# Altium integrated library Philips Microcontroller 8-Bit.IntLib: 472 symbols (part 9 of 17)
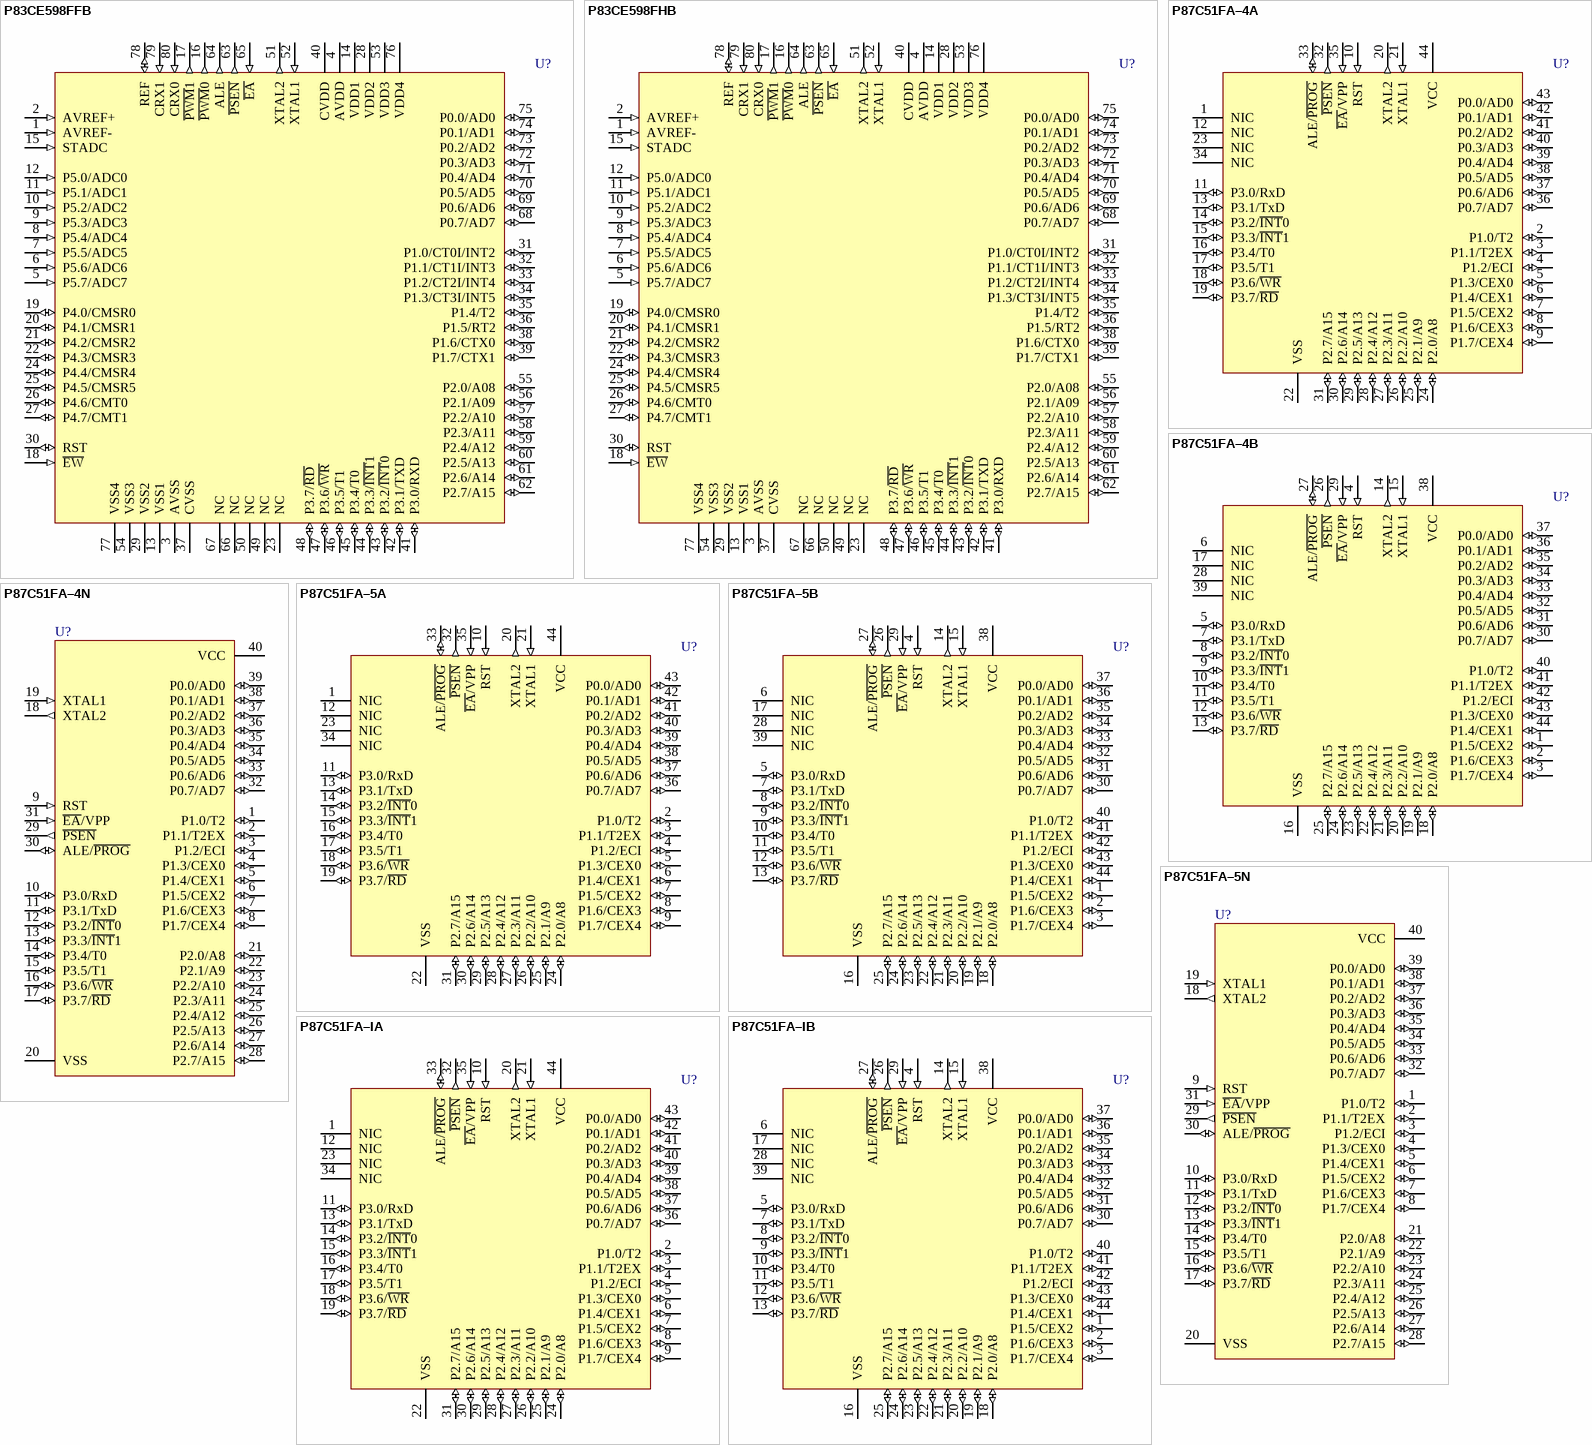
[diagram p54: symbols P83CE598FFB to P87C51FA–IB]

## P87C51FA–IB
designator U?
80C51 8-Bit Microcontroller Family: 256 B RAM, 8 kB OTP, 5V, Low Power, High Speed; Published: 21-May-2003; LatestRevisionDate: 13-Apr-2006; LatestRevisionNote: IPC-7351 Footprint Added.; DatasheetVersion: 7-Aug-2000; PackageVersion: Aug-2000; PackageReference: SOT307-2; Publisher: Altium Limited; PackageDescription: 44-Pin Quad Flat Pack 0.8 mm Pitch; ComponentLink1Description: Manufacturer Link; ComponentLink1URL: http://www-us2.semiconductors.philips.com/; ComponentLink2Description: Datasheet; ComponentLink2URL: http://www.semiconductors.philips.com/acrobat/datasheets/89C51_89C52_89C54_89C58_10.pdf; ComponentLink3Description: Discontinuation Notice; ComponentLink3URL: http://www.semiconductors.philips.com/pip/old/89c51_89c52_89c54_89c58_10.html
footprint SOT307-2_N (QFP, 44-Leads, Body 10x10mm, Pitch 0.8mm, IPC Medium Density)
footprint SOT307-2_L (QFP, 44-Leads, Body 10x10mm, Pitch 0.8mm, IPC High Density)
footprint SOT307-2_M (QFP, 44-Leads, Body 10x10mm, Pitch 0.8mm, IPC Low Density)
pins: 1 P1.5/CEX2 (io), 2 P1.6/CEX3 (io), 3 P1.7/CEX4 (io), 4 RST (in), 5 P3.0/RxD (io), 6 NIC, 7 P3.1/TxD (io), 8 P3.2/~{INT}0 (io), 9 P3.3/~{INT}1 (io), 10 P3.4/T0 (io), 11 P3.5/T1 (io), 12 P3.6/~{WR} (io), 13 P3.7/~{RD} (io), 14 XTAL2 (out), 15 XTAL1 (in), 16 VSS (power), 17 NIC, 18 P2.0/A8 (io), 19 P2.1/A9 (io), 20 P2.2/A10 (io), 21 P2.3/A11 (io), 22 P2.4/A12 (io), 23 P2.5/A13 (io), 24 P2.6/A14 (io), 25 P2.7/A15 (io), 26 ~{PSEN} (out), 27 ALE/~{PROG} (io), 28 NIC, 29 ~{EA}/VPP (in), 30 P0.7/AD7 (io), 31 P0.6/AD6 (io), 32 P0.5/AD5 (io), 33 P0.4/AD4 (io), 34 P0.3/AD3 (io), 35 P0.2/AD2 (io), 36 P0.1/AD1 (io), 37 P0.0/AD0 (io), 38 VCC (power), 39 NIC, 40 P1.0/T2 (io), 41 P1.1/T2EX (io), 42 P1.2/ECI (io), 43 P1.3/CEX0 (io), 44 P1.4/CEX1 (io)

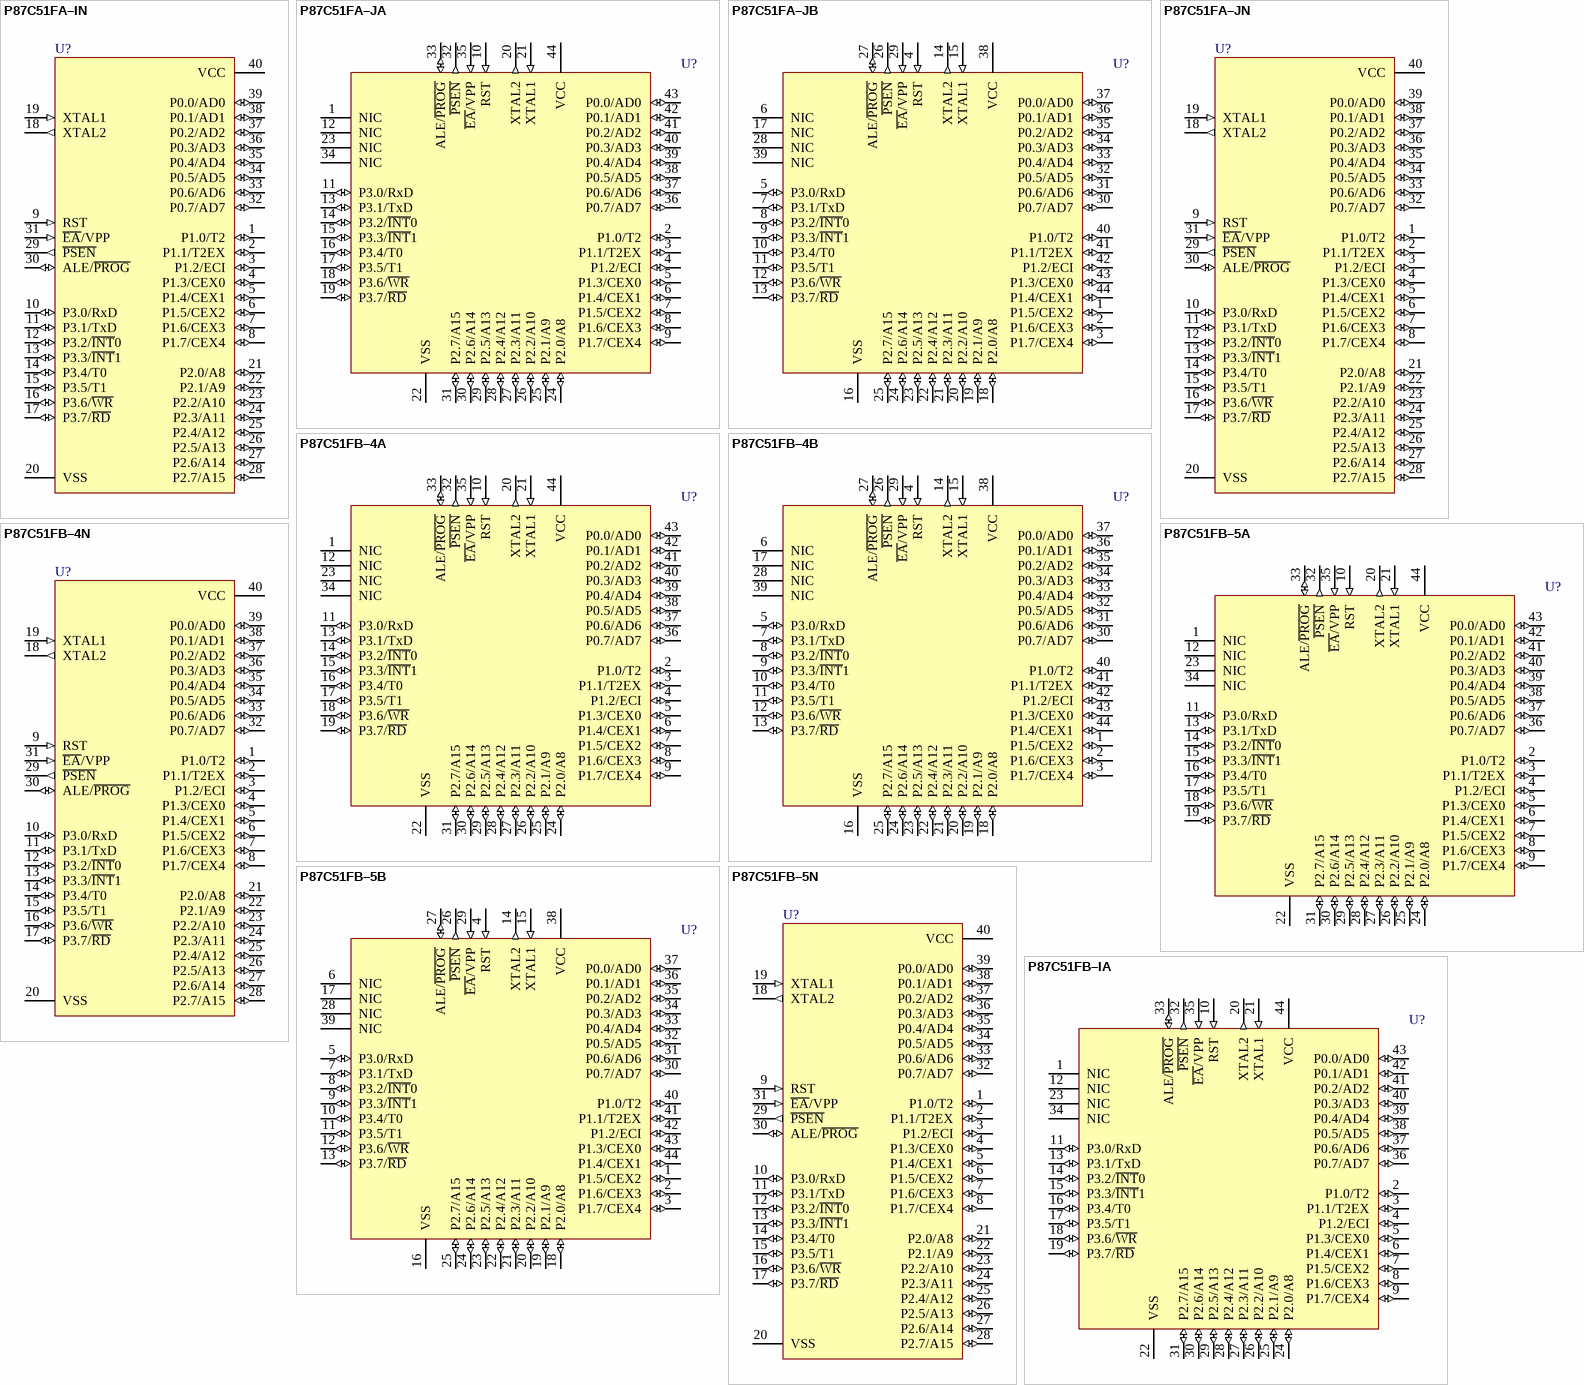
[diagram p24: symbols P87C51FA–IN to P87C51FB–IA]

## P87C51FA–IN
designator U?
80C51 8-Bit Microcontroller Family: 256 B RAM, 8 kB OTP, 5V, Low Power, High Speed; Published: 21-May-2003; DatasheetVersion: 7-Aug-2000; PackageVersion: Aug-2000; PackageReference: SOT129-1; Publisher: Altium Limited; PackageDescription: DIP, Plastic; 40 Leads; Row Spacing 15.24 mm; Pitch 2.54 mm; Code_JEDEC: MO-015; ComponentLink1Description: Manufacturer Link; ComponentLink1URL: http://www-us2.semiconductors.philips.com/; ComponentLink2Description: Datasheet; ComponentLink2URL: http://www.semiconductors.philips.com/acrobat/datasheets/89C51_89C52_89C54_89C58_10.pdf; ComponentLink3Description: Discontinuation Notice; ComponentLink3URL: http://www.semiconductors.philips.com/pip/old/89c51_89c52_89c54_89c58_10.html
footprint SOT129-1 (DIP, Plastic; 40 Leads; Row Spacing 15.24 mm; Pitch 2.54 mm)
pins: 1 P1.0/T2 (io), 2 P1.1/T2EX (io), 3 P1.2/ECI (io), 4 P1.3/CEX0 (io), 5 P1.4/CEX1 (io), 6 P1.5/CEX2 (io), 7 P1.6/CEX3 (io), 8 P1.7/CEX4 (io), 9 RST (in), 10 P3.0/RxD (io), 11 P3.1/TxD (io), 12 P3.2/~{INT}0 (io), 13 P3.3/~{INT}1 (io), 14 P3.4/T0 (io), 15 P3.5/T1 (io), 16 P3.6/~{WR} (io), 17 P3.7/~{RD} (io), 18 XTAL2 (out), 19 XTAL1 (in), 20 VSS (power), 21 P2.0/A8 (io), 22 P2.1/A9 (io), 23 P2.2/A10 (io), 24 P2.3/A11 (io), 25 P2.4/A12 (io), 26 P2.5/A13 (io), 27 P2.6/A14 (io), 28 P2.7/A15 (io), 29 ~{PSEN} (out), 30 ALE/~{PROG} (io), 31 ~{EA}/VPP (in), 32 P0.7/AD7 (io), 33 P0.6/AD6 (io), 34 P0.5/AD5 (io), 35 P0.4/AD4 (io), 36 P0.3/AD3 (io), 37 P0.2/AD2 (io), 38 P0.1/AD1 (io), 39 P0.0/AD0 (io), 40 VCC (power)

## P87C51FA–JA
designator U?
80C51 8-Bit Microcontroller Family: 256 B RAM, 8 kB OTP, 5V, Low Power, High Speed; Published: 21-May-2003; LatestRevisionDate: 13-Apr-2006; LatestRevisionNote: IPC-7351 Footprint Added.; DatasheetVersion: 7-Aug-2000; PackageVersion: Jan-2000; PackageReference: SOT187-2; Publisher: Altium Limited; PackageDescription: 44-Pin Leaded Chip Carrier 1.27 mm Pitch; Code_JEDEC: MO-047AC; Code_IPC: PLCC-44; ComponentLink1Description: Manufacturer Link; ComponentLink1URL: http://www-us2.semiconductors.philips.com/; ComponentLink2Description: Datasheet; ComponentLink2URL: http://www.semiconductors.philips.com/acrobat/datasheets/89C51_89C52_89C54_89C58_10.pdf; ComponentLink3Description: Discontinuation Notice; ComponentLink3URL: http://www.semiconductors.philips.com/pip/old/89c51_89c52_89c54_89c58_10.html
footprint SOT187-2_N (Leaded Chip Carrier, 44-Leads, Body 16.6x16.6mm, Pitch 1.27mm, IPC Medium Density)
footprint SOT187-2_L (Leaded Chip Carrier, 44-Leads, Body 16.6x16.6mm, Pitch 1.27mm, IPC High Density)
footprint SOT187-2_M (Leaded Chip Carrier, 44-Leads, Body 16.6x16.6mm, Pitch 1.27mm, IPC Low Density)
pins: 1 NIC, 2 P1.0/T2 (io), 3 P1.1/T2EX (io), 4 P1.2/ECI (io), 5 P1.3/CEX0 (io), 6 P1.4/CEX1 (io), 7 P1.5/CEX2 (io), 8 P1.6/CEX3 (io), 9 P1.7/CEX4 (io), 10 RST (in), 11 P3.0/RxD (io), 12 NIC, 13 P3.1/TxD (io), 14 P3.2/~{INT}0 (io), 15 P3.3/~{INT}1 (io), 16 P3.4/T0 (io), 17 P3.5/T1 (io), 18 P3.6/~{WR} (io), 19 P3.7/~{RD} (io), 20 XTAL2 (out), 21 XTAL1 (in), 22 VSS (power), 23 NIC, 24 P2.0/A8 (io), 25 P2.1/A9 (io), 26 P2.2/A10 (io), 27 P2.3/A11 (io), 28 P2.4/A12 (io), 29 P2.5/A13 (io), 30 P2.6/A14 (io), 31 P2.7/A15 (io), 32 ~{PSEN} (out), 33 ALE/~{PROG} (io), 34 NIC, 35 ~{EA}/VPP (in), 36 P0.7/AD7 (io), 37 P0.6/AD6 (io), 38 P0.5/AD5 (io), 39 P0.4/AD4 (io), 40 P0.3/AD3 (io), 41 P0.2/AD2 (io), 42 P0.1/AD1 (io), 43 P0.0/AD0 (io), 44 VCC (power)

## P87C51FA–JB
designator U?
80C51 8-Bit Microcontroller Family: 256 B RAM, 8 kB OTP, 5V, Low Power, High Speed; Published: 21-May-2003; LatestRevisionDate: 13-Apr-2006; LatestRevisionNote: IPC-7351 Footprint Added.; DatasheetVersion: 7-Aug-2000; PackageVersion: Aug-2000; PackageReference: SOT307-2; Publisher: Altium Limited; PackageDescription: 44-Pin Quad Flat Pack 0.8 mm Pitch; ComponentLink1Description: Manufacturer Link; ComponentLink1URL: http://www-us2.semiconductors.philips.com/; ComponentLink2Description: Datasheet; ComponentLink2URL: http://www.semiconductors.philips.com/acrobat/datasheets/89C51_89C52_89C54_89C58_10.pdf; ComponentLink3Description: Discontinuation Notice; ComponentLink3URL: http://www.semiconductors.philips.com/pip/old/89c51_89c52_89c54_89c58_10.html
footprint SOT307-2_N (QFP, 44-Leads, Body 10x10mm, Pitch 0.8mm, IPC Medium Density)
footprint SOT307-2_L (QFP, 44-Leads, Body 10x10mm, Pitch 0.8mm, IPC High Density)
footprint SOT307-2_M (QFP, 44-Leads, Body 10x10mm, Pitch 0.8mm, IPC Low Density)
pins: 1 P1.5/CEX2 (io), 2 P1.6/CEX3 (io), 3 P1.7/CEX4 (io), 4 RST (in), 5 P3.0/RxD (io), 6 NIC, 7 P3.1/TxD (io), 8 P3.2/~{INT}0 (io), 9 P3.3/~{INT}1 (io), 10 P3.4/T0 (io), 11 P3.5/T1 (io), 12 P3.6/~{WR} (io), 13 P3.7/~{RD} (io), 14 XTAL2 (out), 15 XTAL1 (in), 16 VSS (power), 17 NIC, 18 P2.0/A8 (io), 19 P2.1/A9 (io), 20 P2.2/A10 (io), 21 P2.3/A11 (io), 22 P2.4/A12 (io), 23 P2.5/A13 (io), 24 P2.6/A14 (io), 25 P2.7/A15 (io), 26 ~{PSEN} (out), 27 ALE/~{PROG} (io), 28 NIC, 29 ~{EA}/VPP (in), 30 P0.7/AD7 (io), 31 P0.6/AD6 (io), 32 P0.5/AD5 (io), 33 P0.4/AD4 (io), 34 P0.3/AD3 (io), 35 P0.2/AD2 (io), 36 P0.1/AD1 (io), 37 P0.0/AD0 (io), 38 VCC (power), 39 NIC, 40 P1.0/T2 (io), 41 P1.1/T2EX (io), 42 P1.2/ECI (io), 43 P1.3/CEX0 (io), 44 P1.4/CEX1 (io)

## P87C51FA–JN
designator U?
80C51 8-Bit Microcontroller Family: 256 B RAM, 8 kB OTP, 5V, Low Power, High Speed; Published: 21-May-2003; DatasheetVersion: 7-Aug-2000; PackageVersion: Aug-2000; PackageReference: SOT129-1; Publisher: Altium Limited; PackageDescription: DIP, Plastic; 40 Leads; Row Spacing 15.24 mm; Pitch 2.54 mm; Code_JEDEC: MO-015; ComponentLink1Description: Manufacturer Link; ComponentLink1URL: http://www-us2.semiconductors.philips.com/; ComponentLink2Description: Datasheet; ComponentLink2URL: http://www.semiconductors.philips.com/acrobat/datasheets/89C51_89C52_89C54_89C58_10.pdf; ComponentLink3Description: Discontinuation Notice; ComponentLink3URL: http://www.semiconductors.philips.com/pip/old/89c51_89c52_89c54_89c58_10.html
footprint SOT129-1 (DIP, Plastic; 40 Leads; Row Spacing 15.24 mm; Pitch 2.54 mm)
pins: 1 P1.0/T2 (io), 2 P1.1/T2EX (io), 3 P1.2/ECI (io), 4 P1.3/CEX0 (io), 5 P1.4/CEX1 (io), 6 P1.5/CEX2 (io), 7 P1.6/CEX3 (io), 8 P1.7/CEX4 (io), 9 RST (in), 10 P3.0/RxD (io), 11 P3.1/TxD (io), 12 P3.2/~{INT}0 (io), 13 P3.3/~{INT}1 (io), 14 P3.4/T0 (io), 15 P3.5/T1 (io), 16 P3.6/~{WR} (io), 17 P3.7/~{RD} (io), 18 XTAL2 (out), 19 XTAL1 (in), 20 VSS (power), 21 P2.0/A8 (io), 22 P2.1/A9 (io), 23 P2.2/A10 (io), 24 P2.3/A11 (io), 25 P2.4/A12 (io), 26 P2.5/A13 (io), 27 P2.6/A14 (io), 28 P2.7/A15 (io), 29 ~{PSEN} (out), 30 ALE/~{PROG} (io), 31 ~{EA}/VPP (in), 32 P0.7/AD7 (io), 33 P0.6/AD6 (io), 34 P0.5/AD5 (io), 35 P0.4/AD4 (io), 36 P0.3/AD3 (io), 37 P0.2/AD2 (io), 38 P0.1/AD1 (io), 39 P0.0/AD0 (io), 40 VCC (power)

## P87C51FB–4A
designator U?
80C51 8-Bit Microcontroller Family: 256 B RAM, 16 kB OTP, 2.7V-5.5V, Low Power, High Speed; Published: 21-May-2003; LatestRevisionDate: 13-Apr-2006; LatestRevisionNote: IPC-7351 Footprint Added.; DatasheetVersion: 7-Aug-2000; PackageVersion: Jan-2000; PackageReference: SOT187-2; Publisher: Altium Limited; PackageDescription: 44-Pin Leaded Chip Carrier 1.27 mm Pitch; Code_JEDEC: MO-047AC; Code_IPC: PLCC-44; ComponentLink1Description: Manufacturer Link; ComponentLink1URL: http://www-us2.semiconductors.philips.com/; ComponentLink2Description: Datasheet; ComponentLink2URL: http://www.semiconductors.philips.com/acrobat/datasheets/89C51_89C52_89C54_89C58_10.pdf; ComponentLink3Description: Discontinuation Notice; ComponentLink3URL: http://www.semiconductors.philips.com/pip/old/89c51_89c52_89c54_89c58_10.html
footprint SOT187-2_N (Leaded Chip Carrier, 44-Leads, Body 16.6x16.6mm, Pitch 1.27mm, IPC Medium Density)
footprint SOT187-2_L (Leaded Chip Carrier, 44-Leads, Body 16.6x16.6mm, Pitch 1.27mm, IPC High Density)
footprint SOT187-2_M (Leaded Chip Carrier, 44-Leads, Body 16.6x16.6mm, Pitch 1.27mm, IPC Low Density)
pins: 1 NIC, 2 P1.0/T2 (io), 3 P1.1/T2EX (io), 4 P1.2/ECI (io), 5 P1.3/CEX0 (io), 6 P1.4/CEX1 (io), 7 P1.5/CEX2 (io), 8 P1.6/CEX3 (io), 9 P1.7/CEX4 (io), 10 RST (in), 11 P3.0/RxD (io), 12 NIC, 13 P3.1/TxD (io), 14 P3.2/~{INT}0 (io), 15 P3.3/~{INT}1 (io), 16 P3.4/T0 (io), 17 P3.5/T1 (io), 18 P3.6/~{WR} (io), 19 P3.7/~{RD} (io), 20 XTAL2 (out), 21 XTAL1 (in), 22 VSS (power), 23 NIC, 24 P2.0/A8 (io), 25 P2.1/A9 (io), 26 P2.2/A10 (io), 27 P2.3/A11 (io), 28 P2.4/A12 (io), 29 P2.5/A13 (io), 30 P2.6/A14 (io), 31 P2.7/A15 (io), 32 ~{PSEN} (out), 33 ALE/~{PROG} (io), 34 NIC, 35 ~{EA}/VPP (in), 36 P0.7/AD7 (io), 37 P0.6/AD6 (io), 38 P0.5/AD5 (io), 39 P0.4/AD4 (io), 40 P0.3/AD3 (io), 41 P0.2/AD2 (io), 42 P0.1/AD1 (io), 43 P0.0/AD0 (io), 44 VCC (power)

## P87C51FB–4B
designator U?
80C51 8-Bit Microcontroller Family: 256 B RAM, 16 kB OTP, 2.7V-5.5V, Low Power, High Speed; Published: 21-May-2003; LatestRevisionDate: 13-Apr-2006; LatestRevisionNote: IPC-7351 Footprint Added.; DatasheetVersion: 7-Aug-2000; PackageVersion: Aug-2000; PackageReference: SOT307-2; Publisher: Altium Limited; PackageDescription: 44-Pin Quad Flat Pack 0.8 mm Pitch; ComponentLink1Description: Manufacturer Link; ComponentLink1URL: http://www-us2.semiconductors.philips.com/; ComponentLink2Description: Datasheet; ComponentLink2URL: http://www.semiconductors.philips.com/acrobat/datasheets/89C51_89C52_89C54_89C58_10.pdf; ComponentLink3Description: Discontinuation Notice; ComponentLink3URL: http://www.semiconductors.philips.com/pip/old/89c51_89c52_89c54_89c58_10.html
footprint SOT307-2_N (QFP, 44-Leads, Body 10x10mm, Pitch 0.8mm, IPC Medium Density)
footprint SOT307-2_L (QFP, 44-Leads, Body 10x10mm, Pitch 0.8mm, IPC High Density)
footprint SOT307-2_M (QFP, 44-Leads, Body 10x10mm, Pitch 0.8mm, IPC Low Density)
pins: 1 P1.5/CEX2 (io), 2 P1.6/CEX3 (io), 3 P1.7/CEX4 (io), 4 RST (in), 5 P3.0/RxD (io), 6 NIC, 7 P3.1/TxD (io), 8 P3.2/~{INT}0 (io), 9 P3.3/~{INT}1 (io), 10 P3.4/T0 (io), 11 P3.5/T1 (io), 12 P3.6/~{WR} (io), 13 P3.7/~{RD} (io), 14 XTAL2 (out), 15 XTAL1 (in), 16 VSS (power), 17 NIC, 18 P2.0/A8 (io), 19 P2.1/A9 (io), 20 P2.2/A10 (io), 21 P2.3/A11 (io), 22 P2.4/A12 (io), 23 P2.5/A13 (io), 24 P2.6/A14 (io), 25 P2.7/A15 (io), 26 ~{PSEN} (out), 27 ALE/~{PROG} (io), 28 NIC, 29 ~{EA}/VPP (in), 30 P0.7/AD7 (io), 31 P0.6/AD6 (io), 32 P0.5/AD5 (io), 33 P0.4/AD4 (io), 34 P0.3/AD3 (io), 35 P0.2/AD2 (io), 36 P0.1/AD1 (io), 37 P0.0/AD0 (io), 38 VCC (power), 39 NIC, 40 P1.0/T2 (io), 41 P1.1/T2EX (io), 42 P1.2/ECI (io), 43 P1.3/CEX0 (io), 44 P1.4/CEX1 (io)

## P87C51FB–4N
designator U?
80C51 8-Bit Microcontroller Family: 256 B RAM, 16 kB OTP, 2.7V-5.5V, Low Power, High Speed; Published: 21-May-2003; DatasheetVersion: 7-Aug-2000; PackageVersion: Aug-2000; PackageReference: SOT129-1; Publisher: Altium Limited; PackageDescription: DIP, Plastic; 40 Leads; Row Spacing 15.24 mm; Pitch 2.54 mm; Code_JEDEC: MO-015; ComponentLink1Description: Manufacturer Link; ComponentLink1URL: http://www-us2.semiconductors.philips.com/; ComponentLink2Description: Datasheet; ComponentLink2URL: http://www.semiconductors.philips.com/acrobat/datasheets/89C51_89C52_89C54_89C58_10.pdf; ComponentLink3Description: Discontinuation Notice; ComponentLink3URL: http://www.semiconductors.philips.com/pip/old/89c51_89c52_89c54_89c58_10.html
footprint SOT129-1 (DIP, Plastic; 40 Leads; Row Spacing 15.24 mm; Pitch 2.54 mm)
pins: 1 P1.0/T2 (io), 2 P1.1/T2EX (io), 3 P1.2/ECI (io), 4 P1.3/CEX0 (io), 5 P1.4/CEX1 (io), 6 P1.5/CEX2 (io), 7 P1.6/CEX3 (io), 8 P1.7/CEX4 (io), 9 RST (in), 10 P3.0/RxD (io), 11 P3.1/TxD (io), 12 P3.2/~{INT}0 (io), 13 P3.3/~{INT}1 (io), 14 P3.4/T0 (io), 15 P3.5/T1 (io), 16 P3.6/~{WR} (io), 17 P3.7/~{RD} (io), 18 XTAL2 (out), 19 XTAL1 (in), 20 VSS (power), 21 P2.0/A8 (io), 22 P2.1/A9 (io), 23 P2.2/A10 (io), 24 P2.3/A11 (io), 25 P2.4/A12 (io), 26 P2.5/A13 (io), 27 P2.6/A14 (io), 28 P2.7/A15 (io), 29 ~{PSEN} (out), 30 ALE/~{PROG} (io), 31 ~{EA}/VPP (in), 32 P0.7/AD7 (io), 33 P0.6/AD6 (io), 34 P0.5/AD5 (io), 35 P0.4/AD4 (io), 36 P0.3/AD3 (io), 37 P0.2/AD2 (io), 38 P0.1/AD1 (io), 39 P0.0/AD0 (io), 40 VCC (power)

## P87C51FB–5A
designator U?
80C51 8-Bit Microcontroller Family: 256 B RAM, 16 kB OTP, 2.7V-5.5V, Low Power, High Speed; Published: 21-May-2003; LatestRevisionDate: 13-Apr-2006; LatestRevisionNote: IPC-7351 Footprint Added.; DatasheetVersion: 7-Aug-2000; PackageVersion: Jan-2000; PackageReference: SOT187-2; Publisher: Altium Limited; PackageDescription: 44-Pin Leaded Chip Carrier 1.27 mm Pitch; Code_JEDEC: MO-047AC; Code_IPC: PLCC-44; ComponentLink1Description: Manufacturer Link; ComponentLink1URL: http://www-us2.semiconductors.philips.com/; ComponentLink2Description: Datasheet; ComponentLink2URL: http://www.semiconductors.philips.com/acrobat/datasheets/89C51_89C52_89C54_89C58_10.pdf; ComponentLink3Description: Discontinuation Notice; ComponentLink3URL: http://www.semiconductors.philips.com/pip/old/89c51_89c52_89c54_89c58_10.html
footprint SOT187-2_N (Leaded Chip Carrier, 44-Leads, Body 16.6x16.6mm, Pitch 1.27mm, IPC Medium Density)
footprint SOT187-2_L (Leaded Chip Carrier, 44-Leads, Body 16.6x16.6mm, Pitch 1.27mm, IPC High Density)
footprint SOT187-2_M (Leaded Chip Carrier, 44-Leads, Body 16.6x16.6mm, Pitch 1.27mm, IPC Low Density)
pins: 1 NIC, 2 P1.0/T2 (io), 3 P1.1/T2EX (io), 4 P1.2/ECI (io), 5 P1.3/CEX0 (io), 6 P1.4/CEX1 (io), 7 P1.5/CEX2 (io), 8 P1.6/CEX3 (io), 9 P1.7/CEX4 (io), 10 RST (in), 11 P3.0/RxD (io), 12 NIC, 13 P3.1/TxD (io), 14 P3.2/~{INT}0 (io), 15 P3.3/~{INT}1 (io), 16 P3.4/T0 (io), 17 P3.5/T1 (io), 18 P3.6/~{WR} (io), 19 P3.7/~{RD} (io), 20 XTAL2 (out), 21 XTAL1 (in), 22 VSS (power), 23 NIC, 24 P2.0/A8 (io), 25 P2.1/A9 (io), 26 P2.2/A10 (io), 27 P2.3/A11 (io), 28 P2.4/A12 (io), 29 P2.5/A13 (io), 30 P2.6/A14 (io), 31 P2.7/A15 (io), 32 ~{PSEN} (out), 33 ALE/~{PROG} (io), 34 NIC, 35 ~{EA}/VPP (in), 36 P0.7/AD7 (io), 37 P0.6/AD6 (io), 38 P0.5/AD5 (io), 39 P0.4/AD4 (io), 40 P0.3/AD3 (io), 41 P0.2/AD2 (io), 42 P0.1/AD1 (io), 43 P0.0/AD0 (io), 44 VCC (power)

## P87C51FB–5B
designator U?
80C51 8-Bit Microcontroller Family: 256 B RAM, 16 kB OTP, 2.7V-5.5V, Low Power, High Speed; Published: 21-May-2003; LatestRevisionDate: 13-Apr-2006; LatestRevisionNote: IPC-7351 Footprint Added.; DatasheetVersion: 7-Aug-2000; PackageVersion: Aug-2000; PackageReference: SOT307-2; Publisher: Altium Limited; PackageDescription: 44-Pin Quad Flat Pack 0.8 mm Pitch; ComponentLink1Description: Manufacturer Link; ComponentLink1URL: http://www-us2.semiconductors.philips.com/; ComponentLink2Description: Datasheet; ComponentLink2URL: http://www.semiconductors.philips.com/acrobat/datasheets/89C51_89C52_89C54_89C58_10.pdf; ComponentLink3Description: Discontinuation Notice; ComponentLink3URL: http://www.semiconductors.philips.com/pip/old/89c51_89c52_89c54_89c58_10.html
footprint SOT307-2_N (QFP, 44-Leads, Body 10x10mm, Pitch 0.8mm, IPC Medium Density)
footprint SOT307-2_L (QFP, 44-Leads, Body 10x10mm, Pitch 0.8mm, IPC High Density)
footprint SOT307-2_M (QFP, 44-Leads, Body 10x10mm, Pitch 0.8mm, IPC Low Density)
pins: 1 P1.5/CEX2 (io), 2 P1.6/CEX3 (io), 3 P1.7/CEX4 (io), 4 RST (in), 5 P3.0/RxD (io), 6 NIC, 7 P3.1/TxD (io), 8 P3.2/~{INT}0 (io), 9 P3.3/~{INT}1 (io), 10 P3.4/T0 (io), 11 P3.5/T1 (io), 12 P3.6/~{WR} (io), 13 P3.7/~{RD} (io), 14 XTAL2 (out), 15 XTAL1 (in), 16 VSS (power), 17 NIC, 18 P2.0/A8 (io), 19 P2.1/A9 (io), 20 P2.2/A10 (io), 21 P2.3/A11 (io), 22 P2.4/A12 (io), 23 P2.5/A13 (io), 24 P2.6/A14 (io), 25 P2.7/A15 (io), 26 ~{PSEN} (out), 27 ALE/~{PROG} (io), 28 NIC, 29 ~{EA}/VPP (in), 30 P0.7/AD7 (io), 31 P0.6/AD6 (io), 32 P0.5/AD5 (io), 33 P0.4/AD4 (io), 34 P0.3/AD3 (io), 35 P0.2/AD2 (io), 36 P0.1/AD1 (io), 37 P0.0/AD0 (io), 38 VCC (power), 39 NIC, 40 P1.0/T2 (io), 41 P1.1/T2EX (io), 42 P1.2/ECI (io), 43 P1.3/CEX0 (io), 44 P1.4/CEX1 (io)

## P87C51FB–5N
designator U?
80C51 8-Bit Microcontroller Family: 256 B RAM, 16 kB OTP, 2.7V-5.5V, Low Power, High Speed; Published: 21-May-2003; DatasheetVersion: 7-Aug-2000; PackageVersion: Aug-2000; PackageReference: SOT129-1; Publisher: Altium Limited; PackageDescription: DIP, Plastic; 40 Leads; Row Spacing 15.24 mm; Pitch 2.54 mm; Code_JEDEC: MO-015; ComponentLink1Description: Manufacturer Link; ComponentLink1URL: http://www-us2.semiconductors.philips.com/; ComponentLink2Description: Datasheet; ComponentLink2URL: http://www.semiconductors.philips.com/acrobat/datasheets/89C51_89C52_89C54_89C58_10.pdf; ComponentLink3Description: Discontinuation Notice; ComponentLink3URL: http://www.semiconductors.philips.com/pip/old/89c51_89c52_89c54_89c58_10.html
footprint SOT129-1 (DIP, Plastic; 40 Leads; Row Spacing 15.24 mm; Pitch 2.54 mm)
pins: 1 P1.0/T2 (io), 2 P1.1/T2EX (io), 3 P1.2/ECI (io), 4 P1.3/CEX0 (io), 5 P1.4/CEX1 (io), 6 P1.5/CEX2 (io), 7 P1.6/CEX3 (io), 8 P1.7/CEX4 (io), 9 RST (in), 10 P3.0/RxD (io), 11 P3.1/TxD (io), 12 P3.2/~{INT}0 (io), 13 P3.3/~{INT}1 (io), 14 P3.4/T0 (io), 15 P3.5/T1 (io), 16 P3.6/~{WR} (io), 17 P3.7/~{RD} (io), 18 XTAL2 (out), 19 XTAL1 (in), 20 VSS (power), 21 P2.0/A8 (io), 22 P2.1/A9 (io), 23 P2.2/A10 (io), 24 P2.3/A11 (io), 25 P2.4/A12 (io), 26 P2.5/A13 (io), 27 P2.6/A14 (io), 28 P2.7/A15 (io), 29 ~{PSEN} (out), 30 ALE/~{PROG} (io), 31 ~{EA}/VPP (in), 32 P0.7/AD7 (io), 33 P0.6/AD6 (io), 34 P0.5/AD5 (io), 35 P0.4/AD4 (io), 36 P0.3/AD3 (io), 37 P0.2/AD2 (io), 38 P0.1/AD1 (io), 39 P0.0/AD0 (io), 40 VCC (power)

## P87C51FB–IA
designator U?
80C51 8-Bit Microcontroller Family: 256 B RAM, 16 kB OTP, 5V, Low Power, High Speed; Published: 21-May-2003; LatestRevisionDate: 13-Apr-2006; LatestRevisionNote: IPC-7351 Footprint Added.; DatasheetVersion: 7-Aug-2000; PackageVersion: Jan-2000; PackageReference: SOT187-2; Publisher: Altium Limited; PackageDescription: 44-Pin Leaded Chip Carrier 1.27 mm Pitch; Code_JEDEC: MO-047AC; Code_IPC: PLCC-44; ComponentLink1Description: Manufacturer Link; ComponentLink1URL: http://www-us2.semiconductors.philips.com/; ComponentLink2Description: Datasheet; ComponentLink2URL: http://www.semiconductors.philips.com/acrobat/datasheets/89C51_89C52_89C54_89C58_10.pdf; ComponentLink3Description: Discontinuation Notice; ComponentLink3URL: http://www.semiconductors.philips.com/pip/old/89c51_89c52_89c54_89c58_10.html
footprint SOT187-2_N (Leaded Chip Carrier, 44-Leads, Body 16.6x16.6mm, Pitch 1.27mm, IPC Medium Density)
footprint SOT187-2_L (Leaded Chip Carrier, 44-Leads, Body 16.6x16.6mm, Pitch 1.27mm, IPC High Density)
footprint SOT187-2_M (Leaded Chip Carrier, 44-Leads, Body 16.6x16.6mm, Pitch 1.27mm, IPC Low Density)
pins: 1 NIC, 2 P1.0/T2 (io), 3 P1.1/T2EX (io), 4 P1.2/ECI (io), 5 P1.3/CEX0 (io), 6 P1.4/CEX1 (io), 7 P1.5/CEX2 (io), 8 P1.6/CEX3 (io), 9 P1.7/CEX4 (io), 10 RST (in), 11 P3.0/RxD (io), 12 NIC, 13 P3.1/TxD (io), 14 P3.2/~{INT}0 (io), 15 P3.3/~{INT}1 (io), 16 P3.4/T0 (io), 17 P3.5/T1 (io), 18 P3.6/~{WR} (io), 19 P3.7/~{RD} (io), 20 XTAL2 (out), 21 XTAL1 (in), 22 VSS (power), 23 NIC, 24 P2.0/A8 (io), 25 P2.1/A9 (io), 26 P2.2/A10 (io), 27 P2.3/A11 (io), 28 P2.4/A12 (io), 29 P2.5/A13 (io), 30 P2.6/A14 (io), 31 P2.7/A15 (io), 32 ~{PSEN} (out), 33 ALE/~{PROG} (io), 34 NIC, 35 ~{EA}/VPP (in), 36 P0.7/AD7 (io), 37 P0.6/AD6 (io), 38 P0.5/AD5 (io), 39 P0.4/AD4 (io), 40 P0.3/AD3 (io), 41 P0.2/AD2 (io), 42 P0.1/AD1 (io), 43 P0.0/AD0 (io), 44 VCC (power)

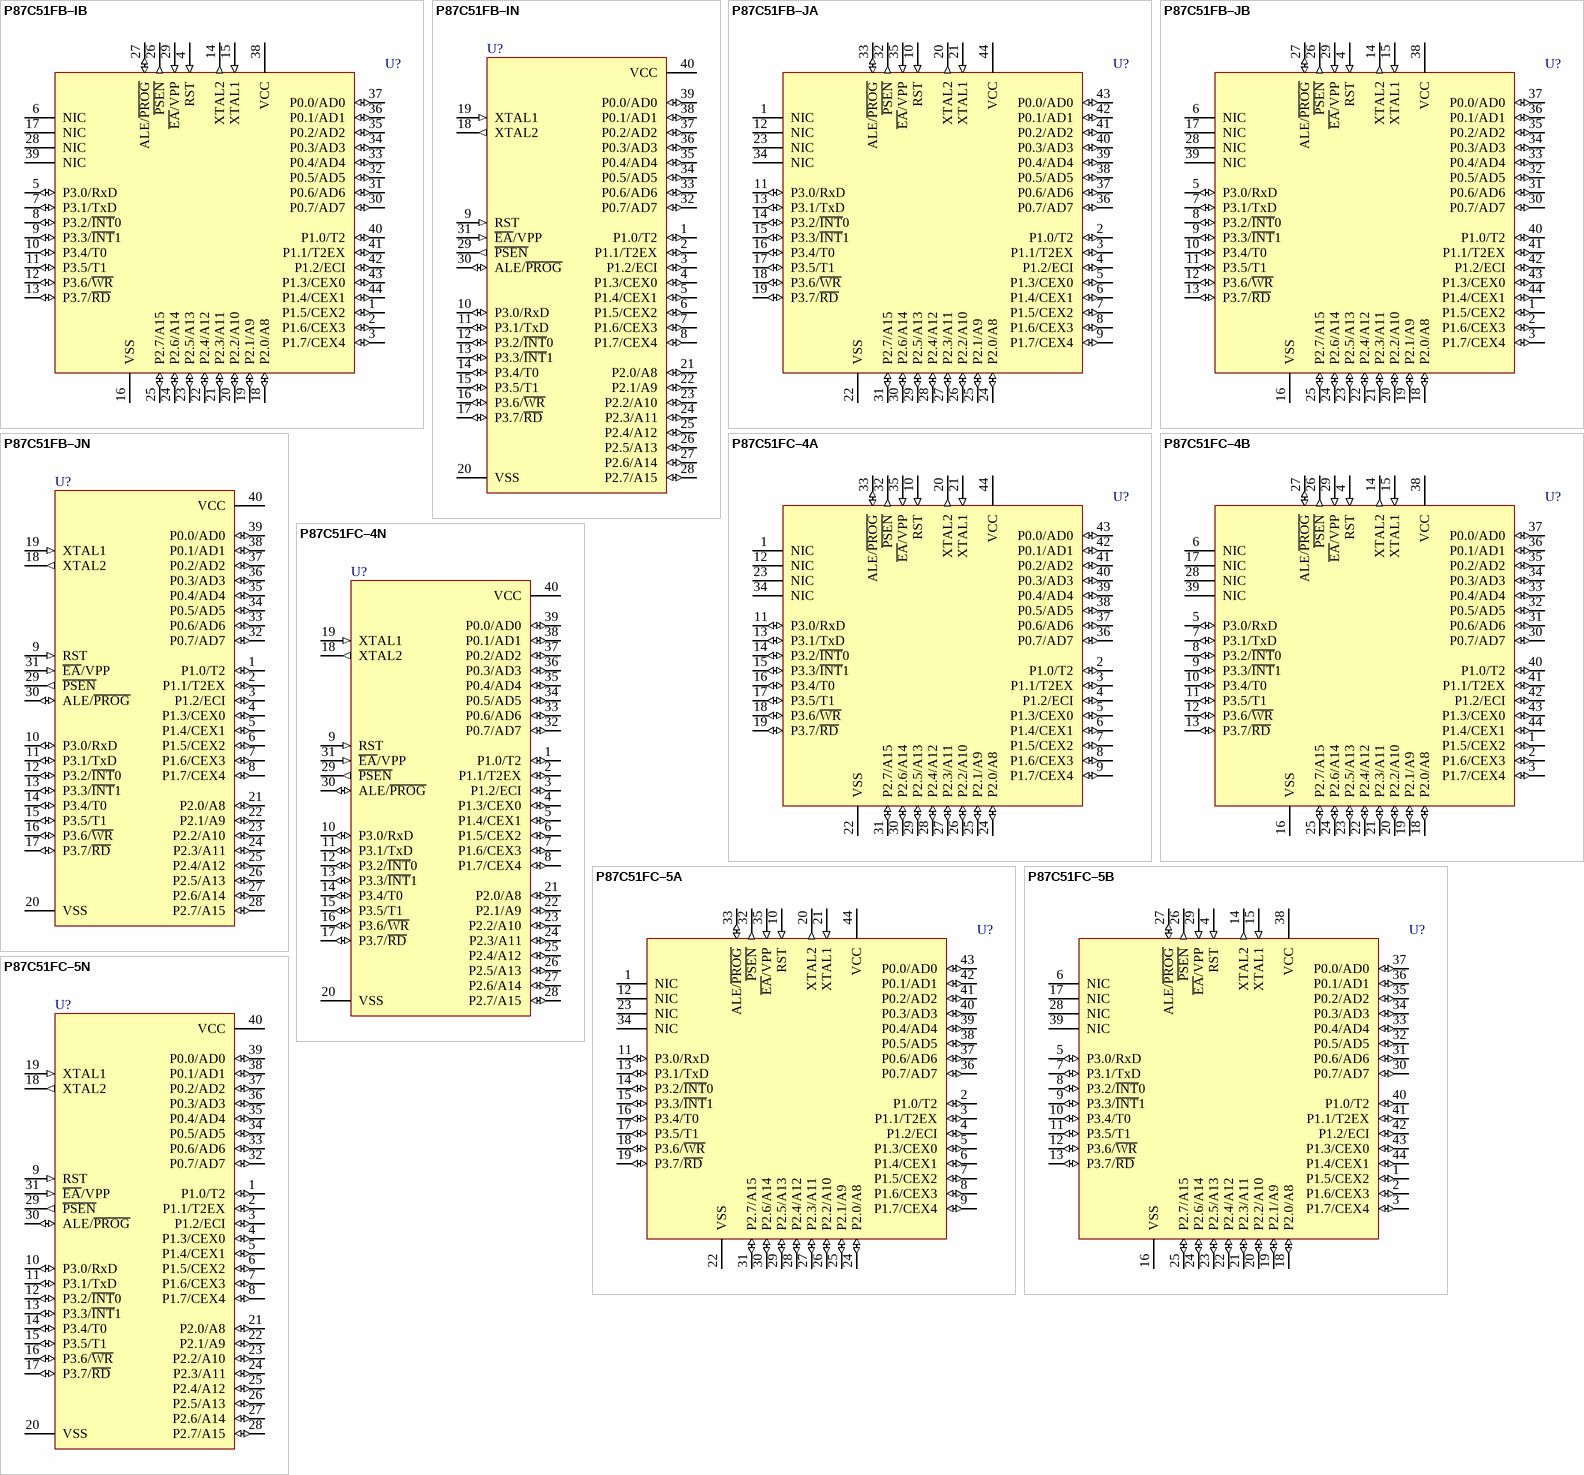
[diagram p25: symbols P87C51FB–IB to P87C51FC–5N]

## P87C51FB–IB
designator U?
80C51 8-Bit Microcontroller Family: 256 B RAM, 16 kB OTP, 5V, Low Power, High Speed; Published: 21-May-2003; LatestRevisionDate: 13-Apr-2006; LatestRevisionNote: IPC-7351 Footprint Added.; DatasheetVersion: 7-Aug-2000; PackageVersion: Aug-2000; PackageReference: SOT307-2; Publisher: Altium Limited; PackageDescription: 44-Pin Quad Flat Pack 0.8 mm Pitch; ComponentLink1Description: Manufacturer Link; ComponentLink1URL: http://www-us2.semiconductors.philips.com/; ComponentLink2Description: Datasheet; ComponentLink2URL: http://www.semiconductors.philips.com/acrobat/datasheets/89C51_89C52_89C54_89C58_10.pdf; ComponentLink3Description: Discontinuation Notice; ComponentLink3URL: http://www.semiconductors.philips.com/pip/old/89c51_89c52_89c54_89c58_10.html
footprint SOT307-2_N (QFP, 44-Leads, Body 10x10mm, Pitch 0.8mm, IPC Medium Density)
footprint SOT307-2_L (QFP, 44-Leads, Body 10x10mm, Pitch 0.8mm, IPC High Density)
footprint SOT307-2_M (QFP, 44-Leads, Body 10x10mm, Pitch 0.8mm, IPC Low Density)
pins: 1 P1.5/CEX2 (io), 2 P1.6/CEX3 (io), 3 P1.7/CEX4 (io), 4 RST (in), 5 P3.0/RxD (io), 6 NIC, 7 P3.1/TxD (io), 8 P3.2/~{INT}0 (io), 9 P3.3/~{INT}1 (io), 10 P3.4/T0 (io), 11 P3.5/T1 (io), 12 P3.6/~{WR} (io), 13 P3.7/~{RD} (io), 14 XTAL2 (out), 15 XTAL1 (in), 16 VSS (power), 17 NIC, 18 P2.0/A8 (io), 19 P2.1/A9 (io), 20 P2.2/A10 (io), 21 P2.3/A11 (io), 22 P2.4/A12 (io), 23 P2.5/A13 (io), 24 P2.6/A14 (io), 25 P2.7/A15 (io), 26 ~{PSEN} (out), 27 ALE/~{PROG} (io), 28 NIC, 29 ~{EA}/VPP (in), 30 P0.7/AD7 (io), 31 P0.6/AD6 (io), 32 P0.5/AD5 (io), 33 P0.4/AD4 (io), 34 P0.3/AD3 (io), 35 P0.2/AD2 (io), 36 P0.1/AD1 (io), 37 P0.0/AD0 (io), 38 VCC (power), 39 NIC, 40 P1.0/T2 (io), 41 P1.1/T2EX (io), 42 P1.2/ECI (io), 43 P1.3/CEX0 (io), 44 P1.4/CEX1 (io)

## P87C51FB–IN
designator U?
80C51 8-Bit Microcontroller Family: 256 B RAM, 16 kB OTP, 5V, Low Power, High Speed; Published: 21-May-2003; DatasheetVersion: 7-Aug-2000; PackageVersion: Aug-2000; PackageReference: SOT129-1; Publisher: Altium Limited; PackageDescription: DIP, Plastic; 40 Leads; Row Spacing 15.24 mm; Pitch 2.54 mm; Code_JEDEC: MO-015; ComponentLink1Description: Manufacturer Link; ComponentLink1URL: http://www-us2.semiconductors.philips.com/; ComponentLink2Description: Datasheet; ComponentLink2URL: http://www.semiconductors.philips.com/acrobat/datasheets/89C51_89C52_89C54_89C58_10.pdf; ComponentLink3Description: Discontinuation Notice; ComponentLink3URL: http://www.semiconductors.philips.com/pip/old/89c51_89c52_89c54_89c58_10.html
footprint SOT129-1 (DIP, Plastic; 40 Leads; Row Spacing 15.24 mm; Pitch 2.54 mm)
pins: 1 P1.0/T2 (io), 2 P1.1/T2EX (io), 3 P1.2/ECI (io), 4 P1.3/CEX0 (io), 5 P1.4/CEX1 (io), 6 P1.5/CEX2 (io), 7 P1.6/CEX3 (io), 8 P1.7/CEX4 (io), 9 RST (in), 10 P3.0/RxD (io), 11 P3.1/TxD (io), 12 P3.2/~{INT}0 (io), 13 P3.3/~{INT}1 (io), 14 P3.4/T0 (io), 15 P3.5/T1 (io), 16 P3.6/~{WR} (io), 17 P3.7/~{RD} (io), 18 XTAL2 (out), 19 XTAL1 (in), 20 VSS (power), 21 P2.0/A8 (io), 22 P2.1/A9 (io), 23 P2.2/A10 (io), 24 P2.3/A11 (io), 25 P2.4/A12 (io), 26 P2.5/A13 (io), 27 P2.6/A14 (io), 28 P2.7/A15 (io), 29 ~{PSEN} (out), 30 ALE/~{PROG} (io), 31 ~{EA}/VPP (in), 32 P0.7/AD7 (io), 33 P0.6/AD6 (io), 34 P0.5/AD5 (io), 35 P0.4/AD4 (io), 36 P0.3/AD3 (io), 37 P0.2/AD2 (io), 38 P0.1/AD1 (io), 39 P0.0/AD0 (io), 40 VCC (power)

## P87C51FB–JA
designator U?
80C51 8-Bit Microcontroller Family: 256 B RAM, 16 kB OTP, 5V, Low Power, High Speed; Published: 21-May-2003; LatestRevisionDate: 13-Apr-2006; LatestRevisionNote: IPC-7351 Footprint Added.; DatasheetVersion: 7-Aug-2000; PackageVersion: Jan-2000; PackageReference: SOT187-2; Publisher: Altium Limited; PackageDescription: 44-Pin Leaded Chip Carrier 1.27 mm Pitch; Code_JEDEC: MO-047AC; Code_IPC: PLCC-44; ComponentLink1Description: Manufacturer Link; ComponentLink1URL: http://www-us2.semiconductors.philips.com/; ComponentLink2Description: Datasheet; ComponentLink2URL: http://www.semiconductors.philips.com/acrobat/datasheets/89C51_89C52_89C54_89C58_10.pdf; ComponentLink3Description: Discontinuation Notice; ComponentLink3URL: http://www.semiconductors.philips.com/pip/old/89c51_89c52_89c54_89c58_10.html
footprint SOT187-2_N (Leaded Chip Carrier, 44-Leads, Body 16.6x16.6mm, Pitch 1.27mm, IPC Medium Density)
footprint SOT187-2_L (Leaded Chip Carrier, 44-Leads, Body 16.6x16.6mm, Pitch 1.27mm, IPC High Density)
footprint SOT187-2_M (Leaded Chip Carrier, 44-Leads, Body 16.6x16.6mm, Pitch 1.27mm, IPC Low Density)
pins: 1 NIC, 2 P1.0/T2 (io), 3 P1.1/T2EX (io), 4 P1.2/ECI (io), 5 P1.3/CEX0 (io), 6 P1.4/CEX1 (io), 7 P1.5/CEX2 (io), 8 P1.6/CEX3 (io), 9 P1.7/CEX4 (io), 10 RST (in), 11 P3.0/RxD (io), 12 NIC, 13 P3.1/TxD (io), 14 P3.2/~{INT}0 (io), 15 P3.3/~{INT}1 (io), 16 P3.4/T0 (io), 17 P3.5/T1 (io), 18 P3.6/~{WR} (io), 19 P3.7/~{RD} (io), 20 XTAL2 (out), 21 XTAL1 (in), 22 VSS (power), 23 NIC, 24 P2.0/A8 (io), 25 P2.1/A9 (io), 26 P2.2/A10 (io), 27 P2.3/A11 (io), 28 P2.4/A12 (io), 29 P2.5/A13 (io), 30 P2.6/A14 (io), 31 P2.7/A15 (io), 32 ~{PSEN} (out), 33 ALE/~{PROG} (io), 34 NIC, 35 ~{EA}/VPP (in), 36 P0.7/AD7 (io), 37 P0.6/AD6 (io), 38 P0.5/AD5 (io), 39 P0.4/AD4 (io), 40 P0.3/AD3 (io), 41 P0.2/AD2 (io), 42 P0.1/AD1 (io), 43 P0.0/AD0 (io), 44 VCC (power)

## P87C51FB–JB
designator U?
80C51 8-Bit Microcontroller Family: 256 B RAM, 16 kB OTP, 5V, Low Power, High Speed; Published: 21-May-2003; LatestRevisionDate: 13-Apr-2006; LatestRevisionNote: IPC-7351 Footprint Added.; DatasheetVersion: 7-Aug-2000; PackageVersion: Aug-2000; PackageReference: SOT307-2; Publisher: Altium Limited; PackageDescription: 44-Pin Quad Flat Pack 0.8 mm Pitch; ComponentLink1Description: Manufacturer Link; ComponentLink1URL: http://www-us2.semiconductors.philips.com/; ComponentLink2Description: Datasheet; ComponentLink2URL: http://www.semiconductors.philips.com/acrobat/datasheets/89C51_89C52_89C54_89C58_10.pdf; ComponentLink3Description: Discontinuation Notice; ComponentLink3URL: http://www.semiconductors.philips.com/pip/old/89c51_89c52_89c54_89c58_10.html
footprint SOT307-2_N (QFP, 44-Leads, Body 10x10mm, Pitch 0.8mm, IPC Medium Density)
footprint SOT307-2_L (QFP, 44-Leads, Body 10x10mm, Pitch 0.8mm, IPC High Density)
footprint SOT307-2_M (QFP, 44-Leads, Body 10x10mm, Pitch 0.8mm, IPC Low Density)
pins: 1 P1.5/CEX2 (io), 2 P1.6/CEX3 (io), 3 P1.7/CEX4 (io), 4 RST (in), 5 P3.0/RxD (io), 6 NIC, 7 P3.1/TxD (io), 8 P3.2/~{INT}0 (io), 9 P3.3/~{INT}1 (io), 10 P3.4/T0 (io), 11 P3.5/T1 (io), 12 P3.6/~{WR} (io), 13 P3.7/~{RD} (io), 14 XTAL2 (out), 15 XTAL1 (in), 16 VSS (power), 17 NIC, 18 P2.0/A8 (io), 19 P2.1/A9 (io), 20 P2.2/A10 (io), 21 P2.3/A11 (io), 22 P2.4/A12 (io), 23 P2.5/A13 (io), 24 P2.6/A14 (io), 25 P2.7/A15 (io), 26 ~{PSEN} (out), 27 ALE/~{PROG} (io), 28 NIC, 29 ~{EA}/VPP (in), 30 P0.7/AD7 (io), 31 P0.6/AD6 (io), 32 P0.5/AD5 (io), 33 P0.4/AD4 (io), 34 P0.3/AD3 (io), 35 P0.2/AD2 (io), 36 P0.1/AD1 (io), 37 P0.0/AD0 (io), 38 VCC (power), 39 NIC, 40 P1.0/T2 (io), 41 P1.1/T2EX (io), 42 P1.2/ECI (io), 43 P1.3/CEX0 (io), 44 P1.4/CEX1 (io)

## P87C51FB–JN
designator U?
80C51 8-Bit Microcontroller Family: 256 B RAM, 16 kB OTP, 5V, Low Power, High Speed; Published: 21-May-2003; DatasheetVersion: 7-Aug-2000; PackageVersion: Aug-2000; PackageReference: SOT129-1; Publisher: Altium Limited; PackageDescription: DIP, Plastic; 40 Leads; Row Spacing 15.24 mm; Pitch 2.54 mm; Code_JEDEC: MO-015; ComponentLink1Description: Manufacturer Link; ComponentLink1URL: http://www-us2.semiconductors.philips.com/; ComponentLink2Description: Datasheet; ComponentLink2URL: http://www.semiconductors.philips.com/acrobat/datasheets/89C51_89C52_89C54_89C58_10.pdf; ComponentLink3Description: Discontinuation Notice; ComponentLink3URL: http://www.semiconductors.philips.com/pip/old/89c51_89c52_89c54_89c58_10.html
footprint SOT129-1 (DIP, Plastic; 40 Leads; Row Spacing 15.24 mm; Pitch 2.54 mm)
pins: 1 P1.0/T2 (io), 2 P1.1/T2EX (io), 3 P1.2/ECI (io), 4 P1.3/CEX0 (io), 5 P1.4/CEX1 (io), 6 P1.5/CEX2 (io), 7 P1.6/CEX3 (io), 8 P1.7/CEX4 (io), 9 RST (in), 10 P3.0/RxD (io), 11 P3.1/TxD (io), 12 P3.2/~{INT}0 (io), 13 P3.3/~{INT}1 (io), 14 P3.4/T0 (io), 15 P3.5/T1 (io), 16 P3.6/~{WR} (io), 17 P3.7/~{RD} (io), 18 XTAL2 (out), 19 XTAL1 (in), 20 VSS (power), 21 P2.0/A8 (io), 22 P2.1/A9 (io), 23 P2.2/A10 (io), 24 P2.3/A11 (io), 25 P2.4/A12 (io), 26 P2.5/A13 (io), 27 P2.6/A14 (io), 28 P2.7/A15 (io), 29 ~{PSEN} (out), 30 ALE/~{PROG} (io), 31 ~{EA}/VPP (in), 32 P0.7/AD7 (io), 33 P0.6/AD6 (io), 34 P0.5/AD5 (io), 35 P0.4/AD4 (io), 36 P0.3/AD3 (io), 37 P0.2/AD2 (io), 38 P0.1/AD1 (io), 39 P0.0/AD0 (io), 40 VCC (power)

## P87C51FC–4A
designator U?
80C51 8-Bit Microcontroller Family: 256 B RAM, 32 kB OTP, 2.7V-5.5V, Low Power, High Speed; Published: 21-May-2003; LatestRevisionDate: 13-Apr-2006; LatestRevisionNote: IPC-7351 Footprint Added.; DatasheetVersion: 7-Aug-2000; PackageVersion: Jan-2000; PackageReference: SOT187-2; Publisher: Altium Limited; PackageDescription: 44-Pin Leaded Chip Carrier 1.27 mm Pitch; Code_JEDEC: MO-047AC; Code_IPC: PLCC-44; ComponentLink1Description: Manufacturer Link; ComponentLink1URL: http://www-us2.semiconductors.philips.com/; ComponentLink2Description: Datasheet; ComponentLink2URL: http://www.semiconductors.philips.com/acrobat/datasheets/89C51_89C52_89C54_89C58_10.pdf; ComponentLink3Description: Discontinuation Notice; ComponentLink3URL: http://www.semiconductors.philips.com/pip/old/89c51_89c52_89c54_89c58_10.html
footprint SOT187-2_N (Leaded Chip Carrier, 44-Leads, Body 16.6x16.6mm, Pitch 1.27mm, IPC Medium Density)
footprint SOT187-2_L (Leaded Chip Carrier, 44-Leads, Body 16.6x16.6mm, Pitch 1.27mm, IPC High Density)
footprint SOT187-2_M (Leaded Chip Carrier, 44-Leads, Body 16.6x16.6mm, Pitch 1.27mm, IPC Low Density)
pins: 1 NIC, 2 P1.0/T2 (io), 3 P1.1/T2EX (io), 4 P1.2/ECI (io), 5 P1.3/CEX0 (io), 6 P1.4/CEX1 (io), 7 P1.5/CEX2 (io), 8 P1.6/CEX3 (io), 9 P1.7/CEX4 (io), 10 RST (in), 11 P3.0/RxD (io), 12 NIC, 13 P3.1/TxD (io), 14 P3.2/~{INT}0 (io), 15 P3.3/~{INT}1 (io), 16 P3.4/T0 (io), 17 P3.5/T1 (io), 18 P3.6/~{WR} (io), 19 P3.7/~{RD} (io), 20 XTAL2 (out), 21 XTAL1 (in), 22 VSS (power), 23 NIC, 24 P2.0/A8 (io), 25 P2.1/A9 (io), 26 P2.2/A10 (io), 27 P2.3/A11 (io), 28 P2.4/A12 (io), 29 P2.5/A13 (io), 30 P2.6/A14 (io), 31 P2.7/A15 (io), 32 ~{PSEN} (out), 33 ALE/~{PROG} (io), 34 NIC, 35 ~{EA}/VPP (in), 36 P0.7/AD7 (io), 37 P0.6/AD6 (io), 38 P0.5/AD5 (io), 39 P0.4/AD4 (io), 40 P0.3/AD3 (io), 41 P0.2/AD2 (io), 42 P0.1/AD1 (io), 43 P0.0/AD0 (io), 44 VCC (power)

## P87C51FC–4B
designator U?
80C51 8-Bit Microcontroller Family: 256 B RAM, 32 kB OTP, 2.7V-5.5V, Low Power, High Speed; Published: 21-May-2003; LatestRevisionDate: 13-Apr-2006; LatestRevisionNote: IPC-7351 Footprint Added.; DatasheetVersion: 7-Aug-2000; PackageVersion: Aug-2000; PackageReference: SOT307-2; Publisher: Altium Limited; PackageDescription: 44-Pin Quad Flat Pack 0.8 mm Pitch; ComponentLink1Description: Manufacturer Link; ComponentLink1URL: http://www-us2.semiconductors.philips.com/; ComponentLink2Description: Datasheet; ComponentLink2URL: http://www.semiconductors.philips.com/acrobat/datasheets/89C51_89C52_89C54_89C58_10.pdf; ComponentLink3Description: Discontinuation Notice; ComponentLink3URL: http://www.semiconductors.philips.com/pip/old/89c51_89c52_89c54_89c58_10.html
footprint SOT307-2_N (QFP, 44-Leads, Body 10x10mm, Pitch 0.8mm, IPC Medium Density)
footprint SOT307-2_L (QFP, 44-Leads, Body 10x10mm, Pitch 0.8mm, IPC High Density)
footprint SOT307-2_M (QFP, 44-Leads, Body 10x10mm, Pitch 0.8mm, IPC Low Density)
pins: 1 P1.5/CEX2 (io), 2 P1.6/CEX3 (io), 3 P1.7/CEX4 (io), 4 RST (in), 5 P3.0/RxD (io), 6 NIC, 7 P3.1/TxD (io), 8 P3.2/~{INT}0 (io), 9 P3.3/~{INT}1 (io), 10 P3.4/T0 (io), 11 P3.5/T1 (io), 12 P3.6/~{WR} (io), 13 P3.7/~{RD} (io), 14 XTAL2 (out), 15 XTAL1 (in), 16 VSS (power), 17 NIC, 18 P2.0/A8 (io), 19 P2.1/A9 (io), 20 P2.2/A10 (io), 21 P2.3/A11 (io), 22 P2.4/A12 (io), 23 P2.5/A13 (io), 24 P2.6/A14 (io), 25 P2.7/A15 (io), 26 ~{PSEN} (out), 27 ALE/~{PROG} (io), 28 NIC, 29 ~{EA}/VPP (in), 30 P0.7/AD7 (io), 31 P0.6/AD6 (io), 32 P0.5/AD5 (io), 33 P0.4/AD4 (io), 34 P0.3/AD3 (io), 35 P0.2/AD2 (io), 36 P0.1/AD1 (io), 37 P0.0/AD0 (io), 38 VCC (power), 39 NIC, 40 P1.0/T2 (io), 41 P1.1/T2EX (io), 42 P1.2/ECI (io), 43 P1.3/CEX0 (io), 44 P1.4/CEX1 (io)

## P87C51FC–4N
designator U?
80C51 8-Bit Microcontroller Family: 256 B RAM, 32 kB OTP, 2.7V-5.5V, Low Power, High Speed; Published: 21-May-2003; DatasheetVersion: 7-Aug-2000; PackageVersion: Aug-2000; PackageReference: SOT129-1; Publisher: Altium Limited; PackageDescription: DIP, Plastic; 40 Leads; Row Spacing 15.24 mm; Pitch 2.54 mm; Code_JEDEC: MO-015; ComponentLink1Description: Manufacturer Link; ComponentLink1URL: http://www-us2.semiconductors.philips.com/; ComponentLink2Description: Datasheet; ComponentLink2URL: http://www.semiconductors.philips.com/acrobat/datasheets/89C51_89C52_89C54_89C58_10.pdf; ComponentLink3Description: Discontinuation Notice; ComponentLink3URL: http://www.semiconductors.philips.com/pip/old/89c51_89c52_89c54_89c58_10.html
footprint SOT129-1 (DIP, Plastic; 40 Leads; Row Spacing 15.24 mm; Pitch 2.54 mm)
pins: 1 P1.0/T2 (io), 2 P1.1/T2EX (io), 3 P1.2/ECI (io), 4 P1.3/CEX0 (io), 5 P1.4/CEX1 (io), 6 P1.5/CEX2 (io), 7 P1.6/CEX3 (io), 8 P1.7/CEX4 (io), 9 RST (in), 10 P3.0/RxD (io), 11 P3.1/TxD (io), 12 P3.2/~{INT}0 (io), 13 P3.3/~{INT}1 (io), 14 P3.4/T0 (io), 15 P3.5/T1 (io), 16 P3.6/~{WR} (io), 17 P3.7/~{RD} (io), 18 XTAL2 (out), 19 XTAL1 (in), 20 VSS (power), 21 P2.0/A8 (io), 22 P2.1/A9 (io), 23 P2.2/A10 (io), 24 P2.3/A11 (io), 25 P2.4/A12 (io), 26 P2.5/A13 (io), 27 P2.6/A14 (io), 28 P2.7/A15 (io), 29 ~{PSEN} (out), 30 ALE/~{PROG} (io), 31 ~{EA}/VPP (in), 32 P0.7/AD7 (io), 33 P0.6/AD6 (io), 34 P0.5/AD5 (io), 35 P0.4/AD4 (io), 36 P0.3/AD3 (io), 37 P0.2/AD2 (io), 38 P0.1/AD1 (io), 39 P0.0/AD0 (io), 40 VCC (power)

## P87C51FC–5A
designator U?
80C51 8-Bit Microcontroller Family: 256 B RAM, 32 kB OTP, 2.7V-5.5V, Low Power, High Speed; Published: 21-May-2003; LatestRevisionDate: 13-Apr-2006; LatestRevisionNote: IPC-7351 Footprint Added.; DatasheetVersion: 7-Aug-2000; PackageVersion: Jan-2000; PackageReference: SOT187-2; Publisher: Altium Limited; PackageDescription: 44-Pin Leaded Chip Carrier 1.27 mm Pitch; Code_JEDEC: MO-047AC; Code_IPC: PLCC-44; ComponentLink1Description: Manufacturer Link; ComponentLink1URL: http://www-us2.semiconductors.philips.com/; ComponentLink2Description: Datasheet; ComponentLink2URL: http://www.semiconductors.philips.com/acrobat/datasheets/89C51_89C52_89C54_89C58_10.pdf; ComponentLink3Description: Discontinuation Notice; ComponentLink3URL: http://www.semiconductors.philips.com/pip/old/89c51_89c52_89c54_89c58_10.html
footprint SOT187-2_N (Leaded Chip Carrier, 44-Leads, Body 16.6x16.6mm, Pitch 1.27mm, IPC Medium Density)
footprint SOT187-2_L (Leaded Chip Carrier, 44-Leads, Body 16.6x16.6mm, Pitch 1.27mm, IPC High Density)
footprint SOT187-2_M (Leaded Chip Carrier, 44-Leads, Body 16.6x16.6mm, Pitch 1.27mm, IPC Low Density)
pins: 1 NIC, 2 P1.0/T2 (io), 3 P1.1/T2EX (io), 4 P1.2/ECI (io), 5 P1.3/CEX0 (io), 6 P1.4/CEX1 (io), 7 P1.5/CEX2 (io), 8 P1.6/CEX3 (io), 9 P1.7/CEX4 (io), 10 RST (in), 11 P3.0/RxD (io), 12 NIC, 13 P3.1/TxD (io), 14 P3.2/~{INT}0 (io), 15 P3.3/~{INT}1 (io), 16 P3.4/T0 (io), 17 P3.5/T1 (io), 18 P3.6/~{WR} (io), 19 P3.7/~{RD} (io), 20 XTAL2 (out), 21 XTAL1 (in), 22 VSS (power), 23 NIC, 24 P2.0/A8 (io), 25 P2.1/A9 (io), 26 P2.2/A10 (io), 27 P2.3/A11 (io), 28 P2.4/A12 (io), 29 P2.5/A13 (io), 30 P2.6/A14 (io), 31 P2.7/A15 (io), 32 ~{PSEN} (out), 33 ALE/~{PROG} (io), 34 NIC, 35 ~{EA}/VPP (in), 36 P0.7/AD7 (io), 37 P0.6/AD6 (io), 38 P0.5/AD5 (io), 39 P0.4/AD4 (io), 40 P0.3/AD3 (io), 41 P0.2/AD2 (io), 42 P0.1/AD1 (io), 43 P0.0/AD0 (io), 44 VCC (power)

## P87C51FC–5B
designator U?
80C51 8-Bit Microcontroller Family: 256 B RAM, 32 kB OTP, 2.7V-5.5V, Low Power, High Speed; Published: 21-May-2003; LatestRevisionDate: 13-Apr-2006; LatestRevisionNote: IPC-7351 Footprint Added.; DatasheetVersion: 7-Aug-2000; PackageVersion: Aug-2000; PackageReference: SOT307-2; Publisher: Altium Limited; PackageDescription: 44-Pin Quad Flat Pack 0.8 mm Pitch; ComponentLink1Description: Manufacturer Link; ComponentLink1URL: http://www-us2.semiconductors.philips.com/; ComponentLink2Description: Datasheet; ComponentLink2URL: http://www.semiconductors.philips.com/acrobat/datasheets/89C51_89C52_89C54_89C58_10.pdf; ComponentLink3Description: Discontinuation Notice; ComponentLink3URL: http://www.semiconductors.philips.com/pip/old/89c51_89c52_89c54_89c58_10.html
footprint SOT307-2_N (QFP, 44-Leads, Body 10x10mm, Pitch 0.8mm, IPC Medium Density)
footprint SOT307-2_L (QFP, 44-Leads, Body 10x10mm, Pitch 0.8mm, IPC High Density)
footprint SOT307-2_M (QFP, 44-Leads, Body 10x10mm, Pitch 0.8mm, IPC Low Density)
pins: 1 P1.5/CEX2 (io), 2 P1.6/CEX3 (io), 3 P1.7/CEX4 (io), 4 RST (in), 5 P3.0/RxD (io), 6 NIC, 7 P3.1/TxD (io), 8 P3.2/~{INT}0 (io), 9 P3.3/~{INT}1 (io), 10 P3.4/T0 (io), 11 P3.5/T1 (io), 12 P3.6/~{WR} (io), 13 P3.7/~{RD} (io), 14 XTAL2 (out), 15 XTAL1 (in), 16 VSS (power), 17 NIC, 18 P2.0/A8 (io), 19 P2.1/A9 (io), 20 P2.2/A10 (io), 21 P2.3/A11 (io), 22 P2.4/A12 (io), 23 P2.5/A13 (io), 24 P2.6/A14 (io), 25 P2.7/A15 (io), 26 ~{PSEN} (out), 27 ALE/~{PROG} (io), 28 NIC, 29 ~{EA}/VPP (in), 30 P0.7/AD7 (io), 31 P0.6/AD6 (io), 32 P0.5/AD5 (io), 33 P0.4/AD4 (io), 34 P0.3/AD3 (io), 35 P0.2/AD2 (io), 36 P0.1/AD1 (io), 37 P0.0/AD0 (io), 38 VCC (power), 39 NIC, 40 P1.0/T2 (io), 41 P1.1/T2EX (io), 42 P1.2/ECI (io), 43 P1.3/CEX0 (io), 44 P1.4/CEX1 (io)

## P87C51FC–5N
designator U?
80C51 8-Bit Microcontroller Family: 256 B RAM, 32 kB OTP, 2.7V-5.5V, Low Power, High Speed; Published: 21-May-2003; DatasheetVersion: 7-Aug-2000; PackageVersion: Aug-2000; PackageReference: SOT129-1; Publisher: Altium Limited; PackageDescription: DIP, Plastic; 40 Leads; Row Spacing 15.24 mm; Pitch 2.54 mm; Code_JEDEC: MO-015; ComponentLink1Description: Manufacturer Link; ComponentLink1URL: http://www-us2.semiconductors.philips.com/; ComponentLink2Description: Datasheet; ComponentLink2URL: http://www.semiconductors.philips.com/acrobat/datasheets/89C51_89C52_89C54_89C58_10.pdf; ComponentLink3Description: Discontinuation Notice; ComponentLink3URL: http://www.semiconductors.philips.com/pip/old/89c51_89c52_89c54_89c58_10.html
footprint SOT129-1 (DIP, Plastic; 40 Leads; Row Spacing 15.24 mm; Pitch 2.54 mm)
pins: 1 P1.0/T2 (io), 2 P1.1/T2EX (io), 3 P1.2/ECI (io), 4 P1.3/CEX0 (io), 5 P1.4/CEX1 (io), 6 P1.5/CEX2 (io), 7 P1.6/CEX3 (io), 8 P1.7/CEX4 (io), 9 RST (in), 10 P3.0/RxD (io), 11 P3.1/TxD (io), 12 P3.2/~{INT}0 (io), 13 P3.3/~{INT}1 (io), 14 P3.4/T0 (io), 15 P3.5/T1 (io), 16 P3.6/~{WR} (io), 17 P3.7/~{RD} (io), 18 XTAL2 (out), 19 XTAL1 (in), 20 VSS (power), 21 P2.0/A8 (io), 22 P2.1/A9 (io), 23 P2.2/A10 (io), 24 P2.3/A11 (io), 25 P2.4/A12 (io), 26 P2.5/A13 (io), 27 P2.6/A14 (io), 28 P2.7/A15 (io), 29 ~{PSEN} (out), 30 ALE/~{PROG} (io), 31 ~{EA}/VPP (in), 32 P0.7/AD7 (io), 33 P0.6/AD6 (io), 34 P0.5/AD5 (io), 35 P0.4/AD4 (io), 36 P0.3/AD3 (io), 37 P0.2/AD2 (io), 38 P0.1/AD1 (io), 39 P0.0/AD0 (io), 40 VCC (power)

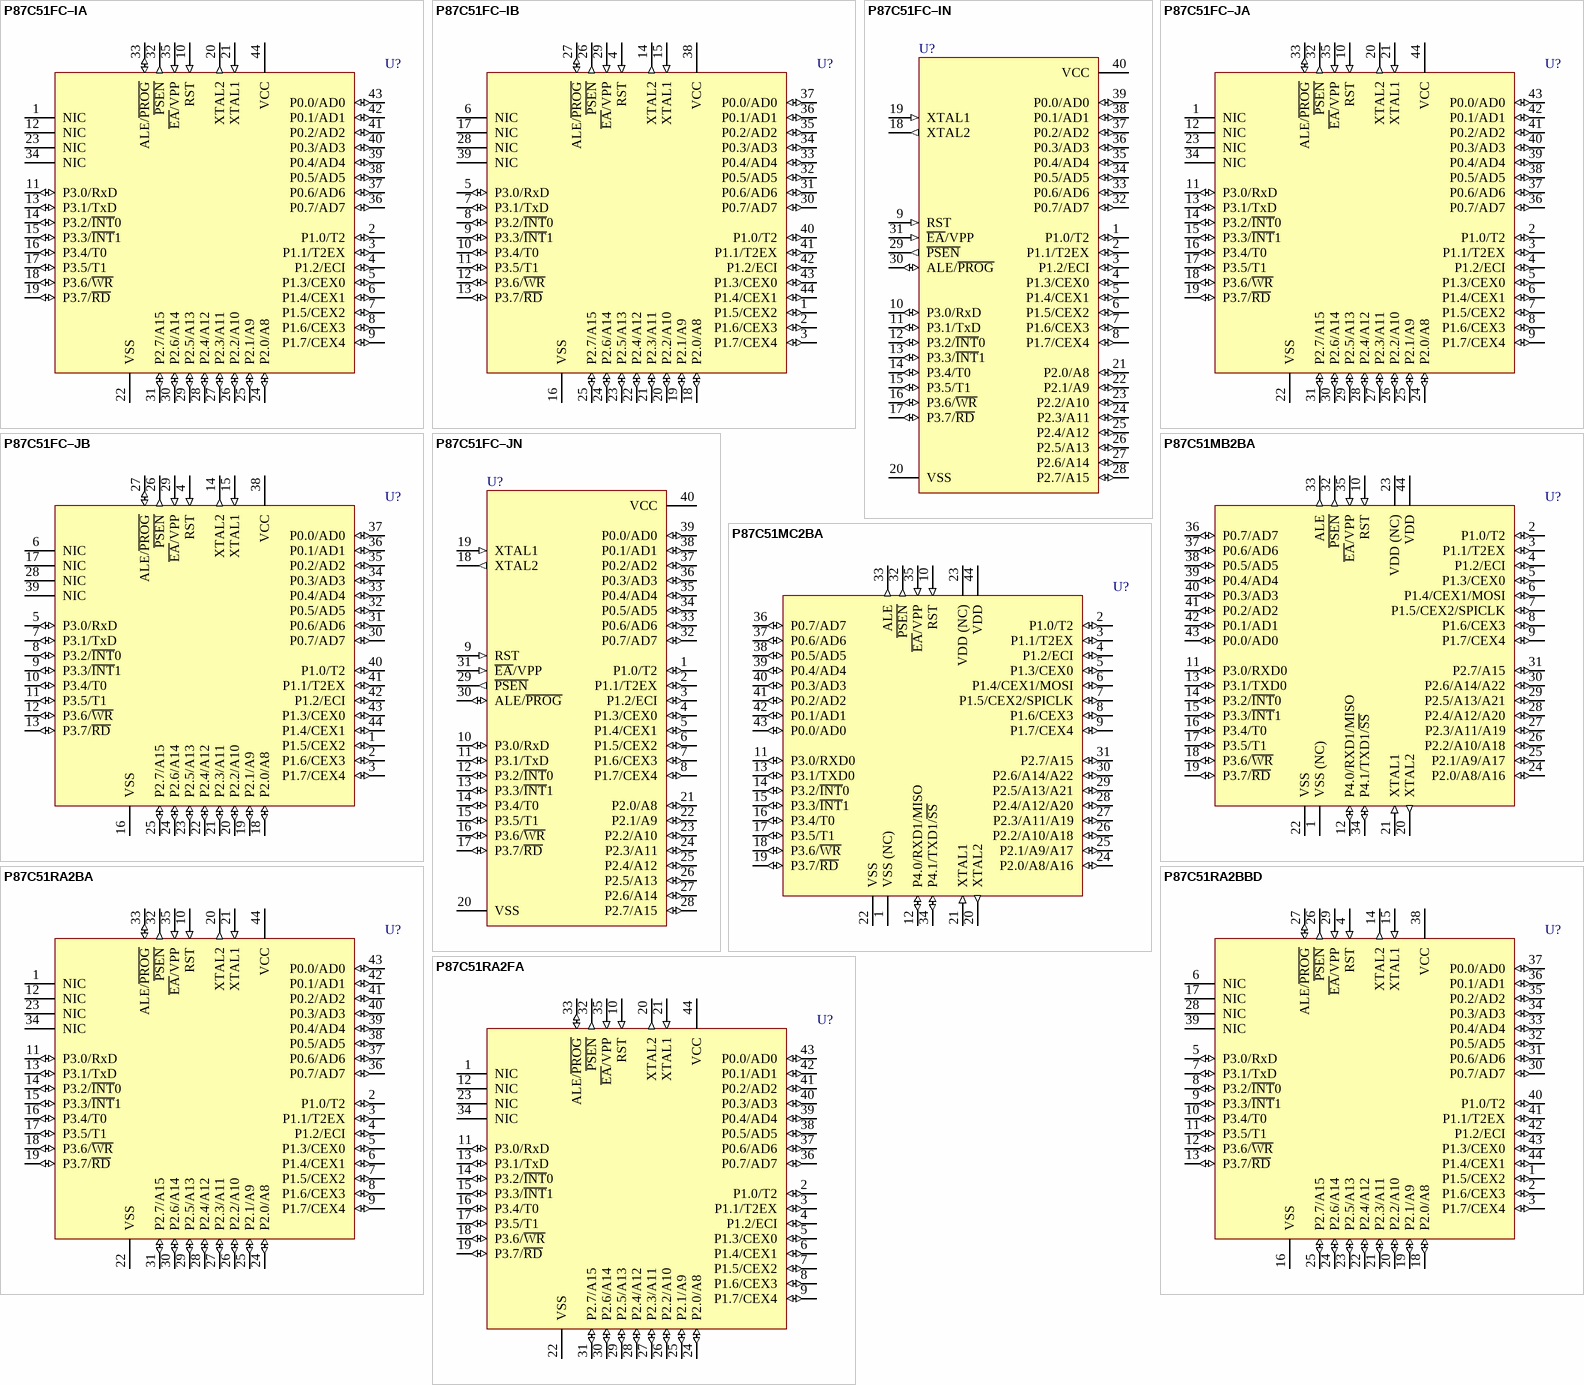
[diagram p26: symbols P87C51FC–IA to P87C51RA2FA]

## P87C51FC–IA
designator U?
80C51 8-Bit Microcontroller Family: 256 B RAM, 32 kB OTP, 5V, Low Power, High Speed; Published: 21-May-2003; LatestRevisionDate: 13-Apr-2006; LatestRevisionNote: IPC-7351 Footprint Added.; DatasheetVersion: 7-Aug-2000; PackageVersion: Jan-2000; PackageReference: SOT187-2; Publisher: Altium Limited; PackageDescription: 44-Pin Leaded Chip Carrier 1.27 mm Pitch; Code_JEDEC: MO-047AC; Code_IPC: PLCC-44; ComponentLink1Description: Manufacturer Link; ComponentLink1URL: http://www-us2.semiconductors.philips.com/; ComponentLink2Description: Datasheet; ComponentLink2URL: http://www.semiconductors.philips.com/acrobat/datasheets/89C51_89C52_89C54_89C58_10.pdf; ComponentLink3Description: Discontinuation Notice; ComponentLink3URL: http://www.semiconductors.philips.com/pip/old/89c51_89c52_89c54_89c58_10.html
footprint SOT187-2_N (Leaded Chip Carrier, 44-Leads, Body 16.6x16.6mm, Pitch 1.27mm, IPC Medium Density)
footprint SOT187-2_L (Leaded Chip Carrier, 44-Leads, Body 16.6x16.6mm, Pitch 1.27mm, IPC High Density)
footprint SOT187-2_M (Leaded Chip Carrier, 44-Leads, Body 16.6x16.6mm, Pitch 1.27mm, IPC Low Density)
pins: 1 NIC, 2 P1.0/T2 (io), 3 P1.1/T2EX (io), 4 P1.2/ECI (io), 5 P1.3/CEX0 (io), 6 P1.4/CEX1 (io), 7 P1.5/CEX2 (io), 8 P1.6/CEX3 (io), 9 P1.7/CEX4 (io), 10 RST (in), 11 P3.0/RxD (io), 12 NIC, 13 P3.1/TxD (io), 14 P3.2/~{INT}0 (io), 15 P3.3/~{INT}1 (io), 16 P3.4/T0 (io), 17 P3.5/T1 (io), 18 P3.6/~{WR} (io), 19 P3.7/~{RD} (io), 20 XTAL2 (out), 21 XTAL1 (in), 22 VSS (power), 23 NIC, 24 P2.0/A8 (io), 25 P2.1/A9 (io), 26 P2.2/A10 (io), 27 P2.3/A11 (io), 28 P2.4/A12 (io), 29 P2.5/A13 (io), 30 P2.6/A14 (io), 31 P2.7/A15 (io), 32 ~{PSEN} (out), 33 ALE/~{PROG} (io), 34 NIC, 35 ~{EA}/VPP (in), 36 P0.7/AD7 (io), 37 P0.6/AD6 (io), 38 P0.5/AD5 (io), 39 P0.4/AD4 (io), 40 P0.3/AD3 (io), 41 P0.2/AD2 (io), 42 P0.1/AD1 (io), 43 P0.0/AD0 (io), 44 VCC (power)

## P87C51FC–IB
designator U?
80C51 8-Bit Microcontroller Family: 256 B RAM, 32 kB OTP, 5V, Low Power, High Speed; Published: 21-May-2003; LatestRevisionDate: 13-Apr-2006; LatestRevisionNote: IPC-7351 Footprint Added.; DatasheetVersion: 7-Aug-2000; PackageVersion: Aug-2000; PackageReference: SOT307-2; Publisher: Altium Limited; PackageDescription: 44-Pin Quad Flat Pack 0.8 mm Pitch; ComponentLink1Description: Manufacturer Link; ComponentLink1URL: http://www-us2.semiconductors.philips.com/; ComponentLink2Description: Datasheet; ComponentLink2URL: http://www.semiconductors.philips.com/acrobat/datasheets/89C51_89C52_89C54_89C58_10.pdf; ComponentLink3Description: Discontinuation Notice; ComponentLink3URL: http://www.semiconductors.philips.com/pip/old/89c51_89c52_89c54_89c58_10.html
footprint SOT307-2_N (QFP, 44-Leads, Body 10x10mm, Pitch 0.8mm, IPC Medium Density)
footprint SOT307-2_L (QFP, 44-Leads, Body 10x10mm, Pitch 0.8mm, IPC High Density)
footprint SOT307-2_M (QFP, 44-Leads, Body 10x10mm, Pitch 0.8mm, IPC Low Density)
pins: 1 P1.5/CEX2 (io), 2 P1.6/CEX3 (io), 3 P1.7/CEX4 (io), 4 RST (in), 5 P3.0/RxD (io), 6 NIC, 7 P3.1/TxD (io), 8 P3.2/~{INT}0 (io), 9 P3.3/~{INT}1 (io), 10 P3.4/T0 (io), 11 P3.5/T1 (io), 12 P3.6/~{WR} (io), 13 P3.7/~{RD} (io), 14 XTAL2 (out), 15 XTAL1 (in), 16 VSS (power), 17 NIC, 18 P2.0/A8 (io), 19 P2.1/A9 (io), 20 P2.2/A10 (io), 21 P2.3/A11 (io), 22 P2.4/A12 (io), 23 P2.5/A13 (io), 24 P2.6/A14 (io), 25 P2.7/A15 (io), 26 ~{PSEN} (out), 27 ALE/~{PROG} (io), 28 NIC, 29 ~{EA}/VPP (in), 30 P0.7/AD7 (io), 31 P0.6/AD6 (io), 32 P0.5/AD5 (io), 33 P0.4/AD4 (io), 34 P0.3/AD3 (io), 35 P0.2/AD2 (io), 36 P0.1/AD1 (io), 37 P0.0/AD0 (io), 38 VCC (power), 39 NIC, 40 P1.0/T2 (io), 41 P1.1/T2EX (io), 42 P1.2/ECI (io), 43 P1.3/CEX0 (io), 44 P1.4/CEX1 (io)

## P87C51FC–IN
designator U?
80C51 8-Bit Microcontroller Family: 256 B RAM, 32 kB OTP, 5V, Low Power, High Speed; Published: 21-May-2003; DatasheetVersion: 7-Aug-2000; PackageVersion: Aug-2000; PackageReference: SOT129-1; Publisher: Altium Limited; PackageDescription: DIP, Plastic; 40 Leads; Row Spacing 15.24 mm; Pitch 2.54 mm; Code_JEDEC: MO-015; ComponentLink1Description: Manufacturer Link; ComponentLink1URL: http://www-us2.semiconductors.philips.com/; ComponentLink2Description: Datasheet; ComponentLink2URL: http://www.semiconductors.philips.com/acrobat/datasheets/89C51_89C52_89C54_89C58_10.pdf; ComponentLink3Description: Discontinuation Notice; ComponentLink3URL: http://www.semiconductors.philips.com/pip/old/89c51_89c52_89c54_89c58_10.html
footprint SOT129-1 (DIP, Plastic; 40 Leads; Row Spacing 15.24 mm; Pitch 2.54 mm)
pins: 1 P1.0/T2 (io), 2 P1.1/T2EX (io), 3 P1.2/ECI (io), 4 P1.3/CEX0 (io), 5 P1.4/CEX1 (io), 6 P1.5/CEX2 (io), 7 P1.6/CEX3 (io), 8 P1.7/CEX4 (io), 9 RST (in), 10 P3.0/RxD (io), 11 P3.1/TxD (io), 12 P3.2/~{INT}0 (io), 13 P3.3/~{INT}1 (io), 14 P3.4/T0 (io), 15 P3.5/T1 (io), 16 P3.6/~{WR} (io), 17 P3.7/~{RD} (io), 18 XTAL2 (out), 19 XTAL1 (in), 20 VSS (power), 21 P2.0/A8 (io), 22 P2.1/A9 (io), 23 P2.2/A10 (io), 24 P2.3/A11 (io), 25 P2.4/A12 (io), 26 P2.5/A13 (io), 27 P2.6/A14 (io), 28 P2.7/A15 (io), 29 ~{PSEN} (out), 30 ALE/~{PROG} (io), 31 ~{EA}/VPP (in), 32 P0.7/AD7 (io), 33 P0.6/AD6 (io), 34 P0.5/AD5 (io), 35 P0.4/AD4 (io), 36 P0.3/AD3 (io), 37 P0.2/AD2 (io), 38 P0.1/AD1 (io), 39 P0.0/AD0 (io), 40 VCC (power)

## P87C51FC–JA
designator U?
80C51 8-Bit Microcontroller Family: 256 B RAM, 32 kB OTP, 5V, Low Power, High Speed; Published: 21-May-2003; LatestRevisionDate: 13-Apr-2006; LatestRevisionNote: IPC-7351 Footprint Added.; DatasheetVersion: 7-Aug-2000; PackageVersion: Jan-2000; PackageReference: SOT187-2; Publisher: Altium Limited; PackageDescription: 44-Pin Leaded Chip Carrier 1.27 mm Pitch; Code_JEDEC: MO-047AC; Code_IPC: PLCC-44; ComponentLink1Description: Manufacturer Link; ComponentLink1URL: http://www-us2.semiconductors.philips.com/; ComponentLink2Description: Datasheet; ComponentLink2URL: http://www.semiconductors.philips.com/acrobat/datasheets/89C51_89C52_89C54_89C58_10.pdf; ComponentLink3Description: Discontinuation Notice; ComponentLink3URL: http://www.semiconductors.philips.com/pip/old/89c51_89c52_89c54_89c58_10.html
footprint SOT187-2_N (Leaded Chip Carrier, 44-Leads, Body 16.6x16.6mm, Pitch 1.27mm, IPC Medium Density)
footprint SOT187-2_L (Leaded Chip Carrier, 44-Leads, Body 16.6x16.6mm, Pitch 1.27mm, IPC High Density)
footprint SOT187-2_M (Leaded Chip Carrier, 44-Leads, Body 16.6x16.6mm, Pitch 1.27mm, IPC Low Density)
pins: 1 NIC, 2 P1.0/T2 (io), 3 P1.1/T2EX (io), 4 P1.2/ECI (io), 5 P1.3/CEX0 (io), 6 P1.4/CEX1 (io), 7 P1.5/CEX2 (io), 8 P1.6/CEX3 (io), 9 P1.7/CEX4 (io), 10 RST (in), 11 P3.0/RxD (io), 12 NIC, 13 P3.1/TxD (io), 14 P3.2/~{INT}0 (io), 15 P3.3/~{INT}1 (io), 16 P3.4/T0 (io), 17 P3.5/T1 (io), 18 P3.6/~{WR} (io), 19 P3.7/~{RD} (io), 20 XTAL2 (out), 21 XTAL1 (in), 22 VSS (power), 23 NIC, 24 P2.0/A8 (io), 25 P2.1/A9 (io), 26 P2.2/A10 (io), 27 P2.3/A11 (io), 28 P2.4/A12 (io), 29 P2.5/A13 (io), 30 P2.6/A14 (io), 31 P2.7/A15 (io), 32 ~{PSEN} (out), 33 ALE/~{PROG} (io), 34 NIC, 35 ~{EA}/VPP (in), 36 P0.7/AD7 (io), 37 P0.6/AD6 (io), 38 P0.5/AD5 (io), 39 P0.4/AD4 (io), 40 P0.3/AD3 (io), 41 P0.2/AD2 (io), 42 P0.1/AD1 (io), 43 P0.0/AD0 (io), 44 VCC (power)

## P87C51FC–JB
designator U?
80C51 8-Bit Microcontroller Family: 256 B RAM, 32 kB OTP, 5V, Low Power, High Speed; Published: 21-May-2003; LatestRevisionDate: 13-Apr-2006; LatestRevisionNote: IPC-7351 Footprint Added.; DatasheetVersion: 7-Aug-2000; PackageVersion: Aug-2000; PackageReference: SOT307-2; Publisher: Altium Limited; PackageDescription: 44-Pin Quad Flat Pack 0.8 mm Pitch; ComponentLink1Description: Manufacturer Link; ComponentLink1URL: http://www-us2.semiconductors.philips.com/; ComponentLink2Description: Datasheet; ComponentLink2URL: http://www.semiconductors.philips.com/acrobat/datasheets/89C51_89C52_89C54_89C58_10.pdf; ComponentLink3Description: Discontinuation Notice; ComponentLink3URL: http://www.semiconductors.philips.com/pip/old/89c51_89c52_89c54_89c58_10.html
footprint SOT307-2_N (QFP, 44-Leads, Body 10x10mm, Pitch 0.8mm, IPC Medium Density)
footprint SOT307-2_L (QFP, 44-Leads, Body 10x10mm, Pitch 0.8mm, IPC High Density)
footprint SOT307-2_M (QFP, 44-Leads, Body 10x10mm, Pitch 0.8mm, IPC Low Density)
pins: 1 P1.5/CEX2 (io), 2 P1.6/CEX3 (io), 3 P1.7/CEX4 (io), 4 RST (in), 5 P3.0/RxD (io), 6 NIC, 7 P3.1/TxD (io), 8 P3.2/~{INT}0 (io), 9 P3.3/~{INT}1 (io), 10 P3.4/T0 (io), 11 P3.5/T1 (io), 12 P3.6/~{WR} (io), 13 P3.7/~{RD} (io), 14 XTAL2 (out), 15 XTAL1 (in), 16 VSS (power), 17 NIC, 18 P2.0/A8 (io), 19 P2.1/A9 (io), 20 P2.2/A10 (io), 21 P2.3/A11 (io), 22 P2.4/A12 (io), 23 P2.5/A13 (io), 24 P2.6/A14 (io), 25 P2.7/A15 (io), 26 ~{PSEN} (out), 27 ALE/~{PROG} (io), 28 NIC, 29 ~{EA}/VPP (in), 30 P0.7/AD7 (io), 31 P0.6/AD6 (io), 32 P0.5/AD5 (io), 33 P0.4/AD4 (io), 34 P0.3/AD3 (io), 35 P0.2/AD2 (io), 36 P0.1/AD1 (io), 37 P0.0/AD0 (io), 38 VCC (power), 39 NIC, 40 P1.0/T2 (io), 41 P1.1/T2EX (io), 42 P1.2/ECI (io), 43 P1.3/CEX0 (io), 44 P1.4/CEX1 (io)